# Altium integrated library Integrated_Library1b.IntLib: 1312 symbols (part 14 of 58)
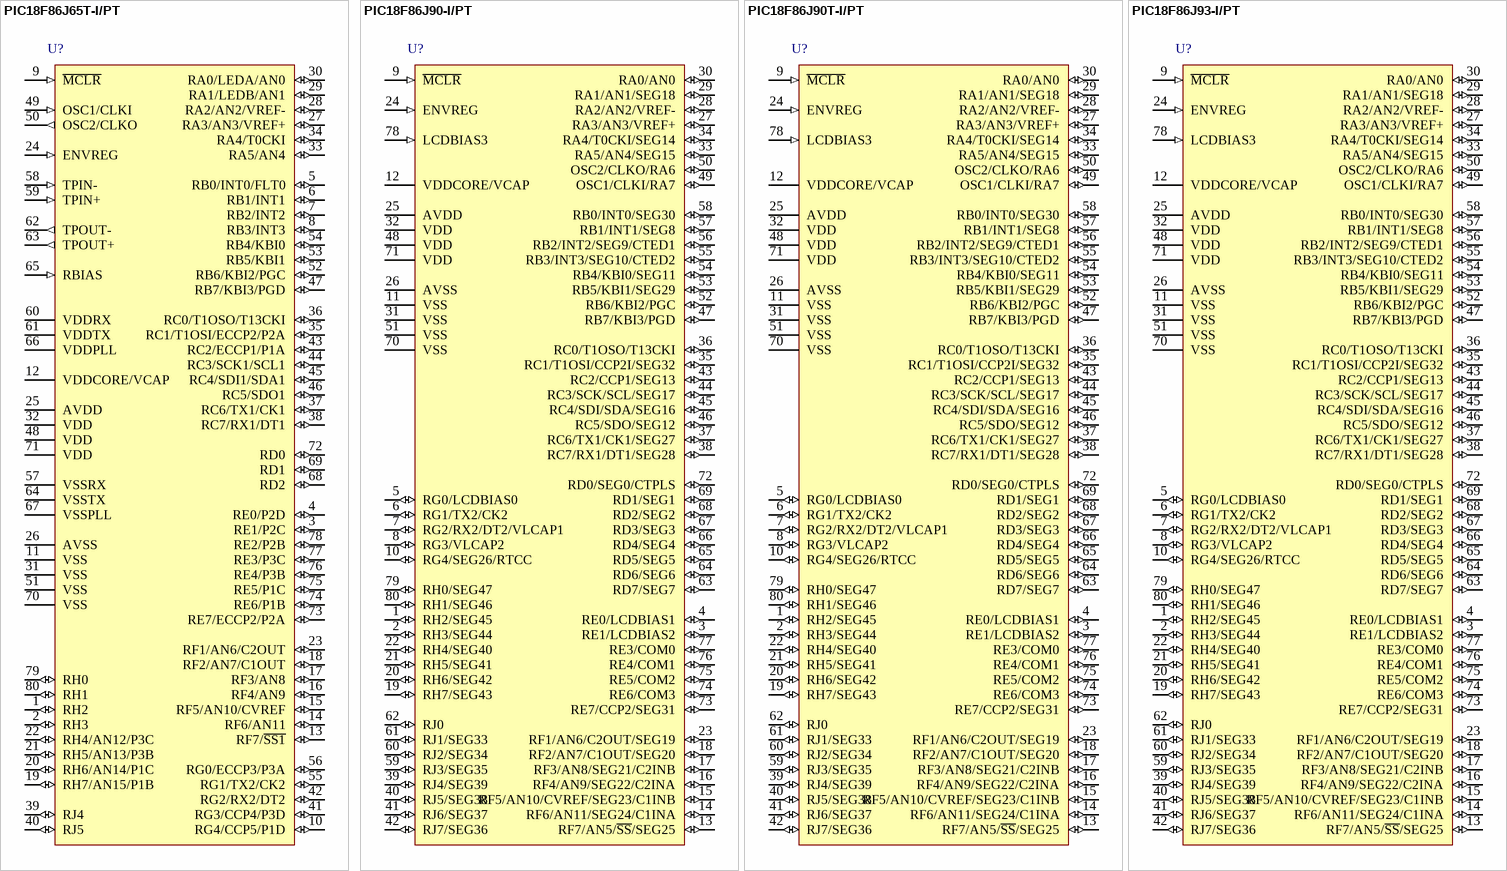
[diagram p162: symbols PIC18F86J65T-I/PT to PIC18F86J93-I/PT]

## PIC18F86J90-I/PT
designator U?
High Performance Microcontroller with LCD Driver and nanoWatt Technology, 80-pin TQFP, Industrial Temperature; FirstPublished: 2-Dec-2009; DatasheetVersion: revC, Feb-2009; PackageVersion: revBB, Aug-2009; PackageReference: TQFP-PT80; Publisher: Altium Limited; PackageDescription: 80-Lead Thin Plastic Quad Flat Pack (PT) - 12x12x1mm Body, 2.00mm [TQFP]; Supplier 1: Digi-Key; Supplier Part Number 1: PIC18F86J90-I/PT-ND; Supplier 2: Farnell; Supplier Part Number 2: 1706288; Supplier 3: Newark; Supplier Part Number 3: 07P9685; Code_JEDEC: MS-026; ComponentLink1Description: Datasheet; ComponentLink1URL: http://ww1.microchip.com/downloads/en/DeviceDoc/39933C.pdf; ComponentLink2Description: Packaging Specification; ComponentLink2URL: http://www.microchip.com/stellent/groups/techpub_sg/documents/packagingspec/en012702.pdf; ComponentLink3Description: Microchip.com Home; ComponentLink3URL: http://www.microchip.com/
footprint TQFP-PT80_N (Thin QFP, 80-Leads, Body 12x12mm, Pitch 0.5mm, IPC Medium Density)
footprint TQFP-PT80_L (Thin QFP, 80-Leads, Body 12x12mm, Pitch 0.5mm, IPC High Density)
footprint TQFP-PT80_M (Thin QFP, 80-Leads, Body 12x12mm, Pitch 0.5mm, IPC Low Density)
pins: 1 RH2/SEG45 (io), 2 RH3/SEG44 (io), 3 RE1/LCDBIAS2 (io), 4 RE0/LCDBIAS1 (io), 5 RG0/LCDBIAS0 (io), 6 RG1/TX2/CK2 (io), 7 RG2/RX2/DT2/VLCAP1 (io), 8 RG3/VLCAP2 (io), 9 ~{MCLR} (in), 10 RG4/SEG26/RTCC (io), 11 VSS (power), 12 VDDCORE/VCAP (power), 13 RF7/AN5/~{SS}/SEG25 (io), 14 RF6/AN11/SEG24/C1INA (io), 15 RF5/AN10/CVREF/SEG23/C1INB (io), 16 RF4/AN9/SEG22/C2INA (io), 17 RF3/AN8/SEG21/C2INB (io), 18 RF2/AN7/C1OUT/SEG20 (io), 19 RH7/SEG43 (io), 20 RH6/SEG42 (io), 21 RH5/SEG41 (io), 22 RH4/SEG40 (io), 23 RF1/AN6/C2OUT/SEG19 (io), 24 ENVREG (in), 25 AVDD (power), 26 AVSS (power), 27 RA3/AN3/VREF+ (io), 28 RA2/AN2/VREF- (io), 29 RA1/AN1/SEG18 (io), 30 RA0/AN0 (io), 31 VSS (power), 32 VDD (power), 33 RA5/AN4/SEG15 (io), 34 RA4/T0CKI/SEG14 (io), 35 RC1/T1OSI/CCP2I/SEG32 (io), 36 RC0/T1OSO/T13CKI (io), 37 RC6/TX1/CK1/SEG27 (io), 38 RC7/RX1/DT1/SEG28 (io), 39 RJ4/SEG39 (io), 40 RJ5/SEG38 (io), 41 RJ6/SEG37 (io), 42 RJ7/SEG36 (io), 43 RC2/CCP1/SEG13 (io), 44 RC3/SCK/SCL/SEG17 (io), 45 RC4/SDI/SDA/SEG16 (io), 46 RC5/SDO/SEG12 (io), 47 RB7/KBI3/PGD (io), 48 VDD (power), 49 OSC1/CLKI/RA7 (io), 50 OSC2/CLKO/RA6 (io), 51 VSS (power), 52 RB6/KBI2/PGC (io), 53 RB5/KBI1/SEG29 (io), 54 RB4/KBI0/SEG11 (io), 55 RB3/INT3/SEG10/CTED2 (io), 56 RB2/INT2/SEG9/CTED1 (io), 57 RB1/INT1/SEG8 (io), 58 RB0/INT0/SEG30 (io), 59 RJ3/SEG35 (io), 60 RJ2/SEG34 (io), 61 RJ1/SEG33 (io), 62 RJ0 (io), 63 RD7/SEG7 (io), 64 RD6/SEG6 (io), 65 RD5/SEG5 (io), 66 RD4/SEG4 (io), 67 RD3/SEG3 (io), 68 RD2/SEG2 (io), 69 RD1/SEG1 (io), 70 VSS (power), 71 VDD (power), 72 RD0/SEG0/CTPLS (io), 73 RE7/CCP2/SEG31 (io), 74 RE6/COM3 (io), 75 RE5/COM2 (io), 76 RE4/COM1 (io), 77 RE3/COM0 (io), 78 LCDBIAS3 (in), 79 RH0/SEG47 (io), 80 RH1/SEG46 (io)

## PIC18F86J90T-I/PT
designator U?
High Performance Microcontroller with LCD Driver and nanoWatt Technology, 80-pin TQFP, Industrial Temperature, Tape and Reel; FirstPublished: 2-Dec-2009; DatasheetVersion: revC, Feb-2009; PackageVersion: revBB, Aug-2009; PackageReference: TQFP-PT80; Publisher: Altium Limited; PackageDescription: 80-Lead Thin Plastic Quad Flat Pack (PT) - 12x12x1mm Body, 2.00mm [TQFP]; Supplier 1: Digi-Key; Supplier Part Number 1: PIC18F86J90T-I/PT-ND; Supplier 2: Newark; Supplier Part Number 2: 07P9686; Code_JEDEC: MS-026; ComponentLink1Description: Datasheet; ComponentLink1URL: http://ww1.microchip.com/downloads/en/DeviceDoc/39933C.pdf; ComponentLink2Description: Packaging Specification; ComponentLink2URL: http://www.microchip.com/stellent/groups/techpub_sg/documents/packagingspec/en012702.pdf; ComponentLink3Description: Microchip.com Home; ComponentLink3URL: http://www.microchip.com/
footprint TQFP-PT80_N (Thin QFP, 80-Leads, Body 12x12mm, Pitch 0.5mm, IPC Medium Density)
footprint TQFP-PT80_L (Thin QFP, 80-Leads, Body 12x12mm, Pitch 0.5mm, IPC High Density)
footprint TQFP-PT80_M (Thin QFP, 80-Leads, Body 12x12mm, Pitch 0.5mm, IPC Low Density)
pins: 1 RH2/SEG45 (io), 2 RH3/SEG44 (io), 3 RE1/LCDBIAS2 (io), 4 RE0/LCDBIAS1 (io), 5 RG0/LCDBIAS0 (io), 6 RG1/TX2/CK2 (io), 7 RG2/RX2/DT2/VLCAP1 (io), 8 RG3/VLCAP2 (io), 9 ~{MCLR} (in), 10 RG4/SEG26/RTCC (io), 11 VSS (power), 12 VDDCORE/VCAP (power), 13 RF7/AN5/~{SS}/SEG25 (io), 14 RF6/AN11/SEG24/C1INA (io), 15 RF5/AN10/CVREF/SEG23/C1INB (io), 16 RF4/AN9/SEG22/C2INA (io), 17 RF3/AN8/SEG21/C2INB (io), 18 RF2/AN7/C1OUT/SEG20 (io), 19 RH7/SEG43 (io), 20 RH6/SEG42 (io), 21 RH5/SEG41 (io), 22 RH4/SEG40 (io), 23 RF1/AN6/C2OUT/SEG19 (io), 24 ENVREG (in), 25 AVDD (power), 26 AVSS (power), 27 RA3/AN3/VREF+ (io), 28 RA2/AN2/VREF- (io), 29 RA1/AN1/SEG18 (io), 30 RA0/AN0 (io), 31 VSS (power), 32 VDD (power), 33 RA5/AN4/SEG15 (io), 34 RA4/T0CKI/SEG14 (io), 35 RC1/T1OSI/CCP2I/SEG32 (io), 36 RC0/T1OSO/T13CKI (io), 37 RC6/TX1/CK1/SEG27 (io), 38 RC7/RX1/DT1/SEG28 (io), 39 RJ4/SEG39 (io), 40 RJ5/SEG38 (io), 41 RJ6/SEG37 (io), 42 RJ7/SEG36 (io), 43 RC2/CCP1/SEG13 (io), 44 RC3/SCK/SCL/SEG17 (io), 45 RC4/SDI/SDA/SEG16 (io), 46 RC5/SDO/SEG12 (io), 47 RB7/KBI3/PGD (io), 48 VDD (power), 49 OSC1/CLKI/RA7 (io), 50 OSC2/CLKO/RA6 (io), 51 VSS (power), 52 RB6/KBI2/PGC (io), 53 RB5/KBI1/SEG29 (io), 54 RB4/KBI0/SEG11 (io), 55 RB3/INT3/SEG10/CTED2 (io), 56 RB2/INT2/SEG9/CTED1 (io), 57 RB1/INT1/SEG8 (io), 58 RB0/INT0/SEG30 (io), 59 RJ3/SEG35 (io), 60 RJ2/SEG34 (io), 61 RJ1/SEG33 (io), 62 RJ0 (io), 63 RD7/SEG7 (io), 64 RD6/SEG6 (io), 65 RD5/SEG5 (io), 66 RD4/SEG4 (io), 67 RD3/SEG3 (io), 68 RD2/SEG2 (io), 69 RD1/SEG1 (io), 70 VSS (power), 71 VDD (power), 72 RD0/SEG0/CTPLS (io), 73 RE7/CCP2/SEG31 (io), 74 RE6/COM3 (io), 75 RE5/COM2 (io), 76 RE4/COM1 (io), 77 RE3/COM0 (io), 78 LCDBIAS3 (in), 79 RH0/SEG47 (io), 80 RH1/SEG46 (io)

## PIC18F86J93-I/PT
designator U?
High Performance Microcontroller with LCD Driver, 12-Bit A/D and nanoWatt Technology, 80-pin TQFP, Industrial Temperature; FirstPublished: 2-Dec-2009; DatasheetVersion: revA, Jun-2009; PackageVersion: revBB, Aug-2009; PackageReference: TQFP-PT80; Publisher: Altium Limited; PackageDescription: 80-Lead Thin Plastic Quad Flat Pack (PT) - 12x12x1mm Body, 2.00mm [TQFP]; Supplier 1: Digi-Key; Supplier Part Number 1: PIC18F86J93-I/PT-ND; Supplier 2: Farnell; Supplier Part Number 2: 1740230; Supplier 3: Newark; Supplier Part Number 3: 14R8990; Code_JEDEC: MS-026; ComponentLink1Description: Datasheet; ComponentLink1URL: http://ww1.microchip.com/downloads/en/DeviceDoc/39948a.pdf; ComponentLink2Description: Packaging Specification; ComponentLink2URL: http://www.microchip.com/stellent/groups/techpub_sg/documents/packagingspec/en012702.pdf; ComponentLink3Description: Microchip.com Home; ComponentLink3URL: http://www.microchip.com/
footprint TQFP-PT80_N (Thin QFP, 80-Leads, Body 12x12mm, Pitch 0.5mm, IPC Medium Density)
footprint TQFP-PT80_L (Thin QFP, 80-Leads, Body 12x12mm, Pitch 0.5mm, IPC High Density)
footprint TQFP-PT80_M (Thin QFP, 80-Leads, Body 12x12mm, Pitch 0.5mm, IPC Low Density)
pins: 1 RH2/SEG45 (io), 2 RH3/SEG44 (io), 3 RE1/LCDBIAS2 (io), 4 RE0/LCDBIAS1 (io), 5 RG0/LCDBIAS0 (io), 6 RG1/TX2/CK2 (io), 7 RG2/RX2/DT2/VLCAP1 (io), 8 RG3/VLCAP2 (io), 9 ~{MCLR} (in), 10 RG4/SEG26/RTCC (io), 11 VSS (power), 12 VDDCORE/VCAP (power), 13 RF7/AN5/~{SS}/SEG25 (io), 14 RF6/AN11/SEG24/C1INA (io), 15 RF5/AN10/CVREF/SEG23/C1INB (io), 16 RF4/AN9/SEG22/C2INA (io), 17 RF3/AN8/SEG21/C2INB (io), 18 RF2/AN7/C1OUT/SEG20 (io), 19 RH7/SEG43 (io), 20 RH6/SEG42 (io), 21 RH5/SEG41 (io), 22 RH4/SEG40 (io), 23 RF1/AN6/C2OUT/SEG19 (io), 24 ENVREG (in), 25 AVDD (power), 26 AVSS (power), 27 RA3/AN3/VREF+ (io), 28 RA2/AN2/VREF- (io), 29 RA1/AN1/SEG18 (io), 30 RA0/AN0 (io), 31 VSS (power), 32 VDD (power), 33 RA5/AN4/SEG15 (io), 34 RA4/T0CKI/SEG14 (io), 35 RC1/T1OSI/CCP2I/SEG32 (io), 36 RC0/T1OSO/T13CKI (io), 37 RC6/TX1/CK1/SEG27 (io), 38 RC7/RX1/DT1/SEG28 (io), 39 RJ4/SEG39 (io), 40 RJ5/SEG38 (io), 41 RJ6/SEG37 (io), 42 RJ7/SEG36 (io), 43 RC2/CCP1/SEG13 (io), 44 RC3/SCK/SCL/SEG17 (io), 45 RC4/SDI/SDA/SEG16 (io), 46 RC5/SDO/SEG12 (io), 47 RB7/KBI3/PGD (io), 48 VDD (power), 49 OSC1/CLKI/RA7 (io), 50 OSC2/CLKO/RA6 (io), 51 VSS (power), 52 RB6/KBI2/PGC (io), 53 RB5/KBI1/SEG29 (io), 54 RB4/KBI0/SEG11 (io), 55 RB3/INT3/SEG10/CTED2 (io), 56 RB2/INT2/SEG9/CTED1 (io), 57 RB1/INT1/SEG8 (io), 58 RB0/INT0/SEG30 (io), 59 RJ3/SEG35 (io), 60 RJ2/SEG34 (io), 61 RJ1/SEG33 (io), 62 RJ0 (io), 63 RD7/SEG7 (io), 64 RD6/SEG6 (io), 65 RD5/SEG5 (io), 66 RD4/SEG4 (io), 67 RD3/SEG3 (io), 68 RD2/SEG2 (io), 69 RD1/SEG1 (io), 70 VSS (power), 71 VDD (power), 72 RD0/SEG0/CTPLS (io), 73 RE7/CCP2/SEG31 (io), 74 RE6/COM3 (io), 75 RE5/COM2 (io), 76 RE4/COM1 (io), 77 RE3/COM0 (io), 78 LCDBIAS3 (in), 79 RH0/SEG47 (io), 80 RH1/SEG46 (io)

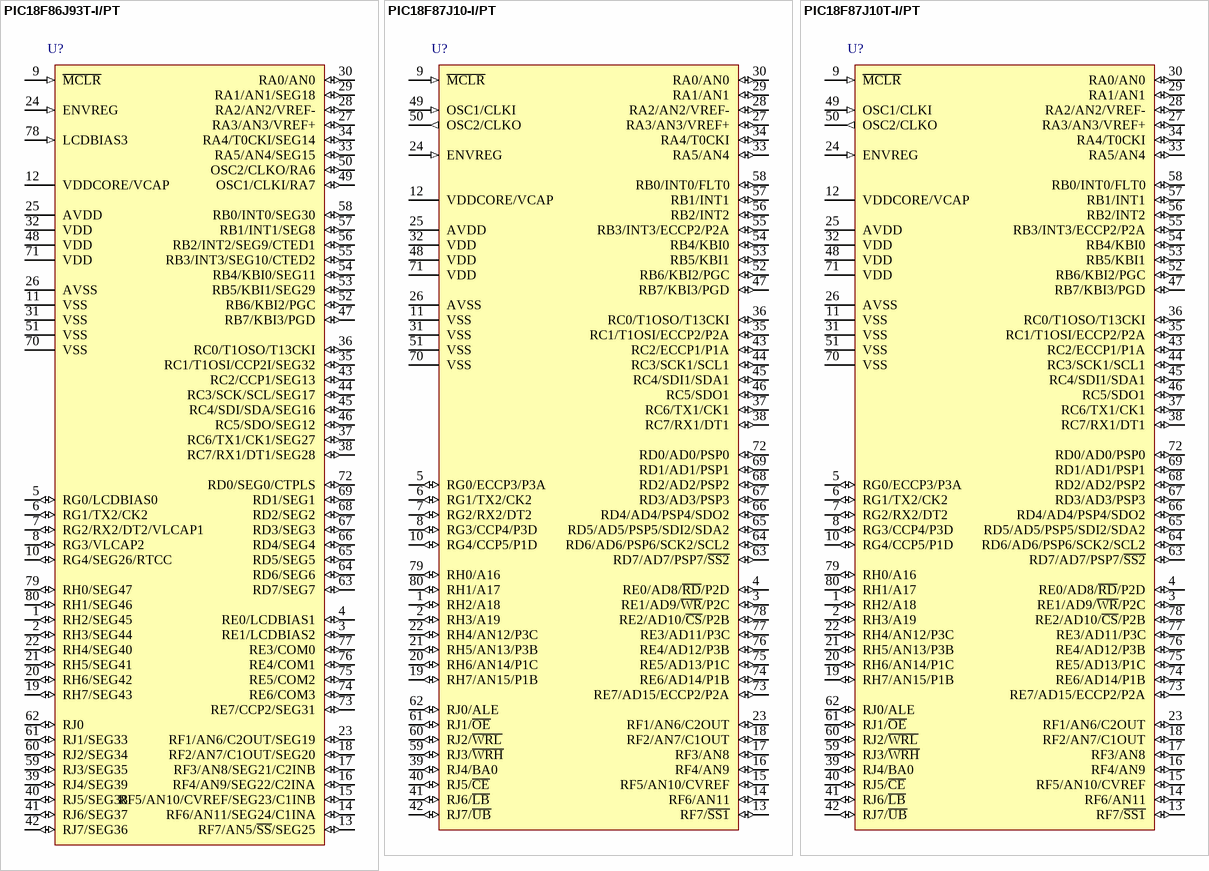
[diagram p38: symbols PIC18F86J93T-I/PT to PIC18F87J10T-I/PT]

## PIC18F86J93T-I/PT
designator U?
High Performance Microcontroller with LCD Driver, 12-Bit A/D and nanoWatt Technology, 80-pin TQFP, Industrial Temperature, Tape and Reel; FirstPublished: 2-Dec-2009; DatasheetVersion: revA, Jun-2009; PackageVersion: revBB, Aug-2009; PackageReference: TQFP-PT80; Publisher: Altium Limited; PackageDescription: 80-Lead Thin Plastic Quad Flat Pack (PT) - 12x12x1mm Body, 2.00mm [TQFP]; Supplier 1: Digi-Key; Supplier Part Number 1: PIC18F86J93T-I/PT-ND; Supplier 2: Newark; Supplier Part Number 2: 14R8991; Code_JEDEC: MS-026; ComponentLink1Description: Datasheet; ComponentLink1URL: http://ww1.microchip.com/downloads/en/DeviceDoc/39948a.pdf; ComponentLink2Description: Packaging Specification; ComponentLink2URL: http://www.microchip.com/stellent/groups/techpub_sg/documents/packagingspec/en012702.pdf; ComponentLink3Description: Microchip.com Home; ComponentLink3URL: http://www.microchip.com/
footprint TQFP-PT80_N (Thin QFP, 80-Leads, Body 12x12mm, Pitch 0.5mm, IPC Medium Density)
footprint TQFP-PT80_L (Thin QFP, 80-Leads, Body 12x12mm, Pitch 0.5mm, IPC High Density)
footprint TQFP-PT80_M (Thin QFP, 80-Leads, Body 12x12mm, Pitch 0.5mm, IPC Low Density)
pins: 1 RH2/SEG45 (io), 2 RH3/SEG44 (io), 3 RE1/LCDBIAS2 (io), 4 RE0/LCDBIAS1 (io), 5 RG0/LCDBIAS0 (io), 6 RG1/TX2/CK2 (io), 7 RG2/RX2/DT2/VLCAP1 (io), 8 RG3/VLCAP2 (io), 9 ~{MCLR} (in), 10 RG4/SEG26/RTCC (io), 11 VSS (power), 12 VDDCORE/VCAP (power), 13 RF7/AN5/~{SS}/SEG25 (io), 14 RF6/AN11/SEG24/C1INA (io), 15 RF5/AN10/CVREF/SEG23/C1INB (io), 16 RF4/AN9/SEG22/C2INA (io), 17 RF3/AN8/SEG21/C2INB (io), 18 RF2/AN7/C1OUT/SEG20 (io), 19 RH7/SEG43 (io), 20 RH6/SEG42 (io), 21 RH5/SEG41 (io), 22 RH4/SEG40 (io), 23 RF1/AN6/C2OUT/SEG19 (io), 24 ENVREG (in), 25 AVDD (power), 26 AVSS (power), 27 RA3/AN3/VREF+ (io), 28 RA2/AN2/VREF- (io), 29 RA1/AN1/SEG18 (io), 30 RA0/AN0 (io), 31 VSS (power), 32 VDD (power), 33 RA5/AN4/SEG15 (io), 34 RA4/T0CKI/SEG14 (io), 35 RC1/T1OSI/CCP2I/SEG32 (io), 36 RC0/T1OSO/T13CKI (io), 37 RC6/TX1/CK1/SEG27 (io), 38 RC7/RX1/DT1/SEG28 (io), 39 RJ4/SEG39 (io), 40 RJ5/SEG38 (io), 41 RJ6/SEG37 (io), 42 RJ7/SEG36 (io), 43 RC2/CCP1/SEG13 (io), 44 RC3/SCK/SCL/SEG17 (io), 45 RC4/SDI/SDA/SEG16 (io), 46 RC5/SDO/SEG12 (io), 47 RB7/KBI3/PGD (io), 48 VDD (power), 49 OSC1/CLKI/RA7 (io), 50 OSC2/CLKO/RA6 (io), 51 VSS (power), 52 RB6/KBI2/PGC (io), 53 RB5/KBI1/SEG29 (io), 54 RB4/KBI0/SEG11 (io), 55 RB3/INT3/SEG10/CTED2 (io), 56 RB2/INT2/SEG9/CTED1 (io), 57 RB1/INT1/SEG8 (io), 58 RB0/INT0/SEG30 (io), 59 RJ3/SEG35 (io), 60 RJ2/SEG34 (io), 61 RJ1/SEG33 (io), 62 RJ0 (io), 63 RD7/SEG7 (io), 64 RD6/SEG6 (io), 65 RD5/SEG5 (io), 66 RD4/SEG4 (io), 67 RD3/SEG3 (io), 68 RD2/SEG2 (io), 69 RD1/SEG1 (io), 70 VSS (power), 71 VDD (power), 72 RD0/SEG0/CTPLS (io), 73 RE7/CCP2/SEG31 (io), 74 RE6/COM3 (io), 75 RE5/COM2 (io), 76 RE4/COM1 (io), 77 RE3/COM0 (io), 78 LCDBIAS3 (in), 79 RH0/SEG47 (io), 80 RH1/SEG46 (io)

## PIC18F87J10-I/PT
designator U?
High Performance, 1-Mbit Flash Microcontroller with nanoWatt Technology, 128K Flash, 80-Pin TQFP, Industrial Temperature Range; FirstPublished: 29-Jan-2009; LatestRevisionDate: 02-Dec-2009; LatestRevisionNote: Updated to datasheet revision F, Sep-2009; DatasheetVersion: revF, Sep-2009; PackageVersion: revBB, Aug-2009; PackageReference: TQFP-PT80; Publisher: Altium Limited; PackageDescription: 80-Lead Thin Plastic Quad Flat Pack (PT) - 12x12x1mm Body, 2.00mm [TQFP]; Supplier 1: Digi-Key; Supplier Part Number 1: PIC18F87J10-I/PT-ND; Supplier 2: Farnell; Supplier Part Number 2: 1332290; Supplier 3: Newark; Supplier Part Number 3: 71J7289; Code_JEDEC: MS-026; ComponentLink1Description: Datasheet; ComponentLink1URL: http://ww1.microchip.com/downloads/en/DeviceDoc/39663f.pdf; ComponentLink2Description: Packaging Specification; ComponentLink2URL: http://www.microchip.com/stellent/groups/techpub_sg/documents/packagingspec/en012702.pdf; ComponentLink3Description: Microchip.com Home; ComponentLink3URL: http://www.microchip.com/
footprint TQFP-PT80_N (Thin QFP, 80-Leads, Body 12x12mm, Pitch 0.5mm, IPC Medium Density)
footprint TQFP-PT80_L (Thin QFP, 80-Leads, Body 12x12mm, Pitch 0.5mm, IPC High Density)
footprint TQFP-PT80_M (Thin QFP, 80-Leads, Body 12x12mm, Pitch 0.5mm, IPC Low Density)
pins: 1 RH2/A18 (io), 2 RH3/A19 (io), 3 RE1/AD9/~{WR}/P2C (io), 4 RE0/AD8/~{RD}/P2D (io), 5 RG0/ECCP3/P3A (io), 6 RG1/TX2/CK2 (io), 7 RG2/RX2/DT2 (io), 8 RG3/CCP4/P3D (io), 9 ~{MCLR} (in), 10 RG4/CCP5/P1D (io), 11 VSS (power), 12 VDDCORE/VCAP (power), 13 RF7/~{SS1} (io), 14 RF6/AN11 (io), 15 RF5/AN10/CVREF (io), 16 RF4/AN9 (io), 17 RF3/AN8 (io), 18 RF2/AN7/C1OUT (io), 19 RH7/AN15/P1B (io), 20 RH6/AN14/P1C (io), 21 RH5/AN13/P3B (io), 22 RH4/AN12/P3C (io), 23 RF1/AN6/C2OUT (io), 24 ENVREG (in), 25 AVDD (power), 26 AVSS (power), 27 RA3/AN3/VREF+ (io), 28 RA2/AN2/VREF- (io), 29 RA1/AN1 (io), 30 RA0/AN0 (io), 31 VSS (power), 32 VDD (power), 33 RA5/AN4 (io), 34 RA4/T0CKI (io), 35 RC1/T1OSI/ECCP2/P2A (io), 36 RC0/T1OSO/T13CKI (io), 37 RC6/TX1/CK1 (io), 38 RC7/RX1/DT1 (io), 39 RJ4/BA0 (io), 40 RJ5/~{CE} (io), 41 RJ6/~{LB} (io), 42 RJ7/~{UB} (io), 43 RC2/ECCP1/P1A (io), 44 RC3/SCK1/SCL1 (io), 45 RC4/SDI1/SDA1 (io), 46 RC5/SDO1 (io), 47 RB7/KBI3/PGD (io), 48 VDD (power), 49 OSC1/CLKI (in), 50 OSC2/CLKO (out), 51 VSS (power), 52 RB6/KBI2/PGC (io), 53 RB5/KBI1 (io), 54 RB4/KBI0 (io), 55 RB3/INT3/ECCP2/P2A (io), 56 RB2/INT2 (io), 57 RB1/INT1 (io), 58 RB0/INT0/FLT0 (io), 59 RJ3/~{WRH} (io), 60 RJ2/~{WRL} (io), 61 RJ1/~{OE} (io), 62 RJ0/ALE (io), 63 RD7/AD7/PSP7/~{SS2} (io), 64 RD6/AD6/PSP6/SCK2/SCL2 (io), 65 RD5/AD5/PSP5/SDI2/SDA2 (io), 66 RD4/AD4/PSP4/SDO2 (io), 67 RD3/AD3/PSP3 (io), 68 RD2/AD2/PSP2 (io), 69 RD1/AD1/PSP1 (io), 70 VSS (power), 71 VDD (power), 72 RD0/AD0/PSP0 (io), 73 RE7/AD15/ECCP2/P2A (io), 74 RE6/AD14/P1B (io), 75 RE5/AD13/P1C (io), 76 RE4/AD12/P3B (io), 77 RE3/AD11/P3C (io), 78 RE2/AD10/~{CS}/P2B (io), 79 RH0/A16 (io), 80 RH1/A17 (io)

## PIC18F87J10T-I/PT
designator U?
High Performance, 1-Mbit Flash Microcontroller with nanoWatt Technology, 128K Flash, 80-Pin TQFP, Industrial Temperature Range, Tape and Reel; FirstPublished: 29-Jan-2009; LatestRevisionDate: 02-Dec-2009; LatestRevisionNote: Updated to datasheet revision F, Sep-2009; DatasheetVersion: revF, Sep-2009; PackageVersion: revBB, Aug-2009; PackageReference: TQFP-PT80; Publisher: Altium Limited; PackageDescription: 80-Lead Thin Plastic Quad Flat Pack (PT) - 12x12x1mm Body, 2.00mm [TQFP]; Supplier 1: Digi-Key; Supplier Part Number 1: PIC18F87J10T-I/PTTR-ND; Supplier 2: Digi-Key; Supplier Part Number 2: PIC18F87J10T-I/PTCT-ND; Supplier 3: Newark; Supplier Part Number 3: 71J7290; Code_JEDEC: MS-026; ComponentLink1Description: Datasheet; ComponentLink1URL: http://ww1.microchip.com/downloads/en/DeviceDoc/39663f.pdf; ComponentLink2Description: Packaging Specification; ComponentLink2URL: http://www.microchip.com/stellent/groups/techpub_sg/documents/packagingspec/en012702.pdf; ComponentLink3Description: Microchip.com Home; ComponentLink3URL: http://www.microchip.com/
footprint TQFP-PT80_N (Thin QFP, 80-Leads, Body 12x12mm, Pitch 0.5mm, IPC Medium Density)
footprint TQFP-PT80_L (Thin QFP, 80-Leads, Body 12x12mm, Pitch 0.5mm, IPC High Density)
footprint TQFP-PT80_M (Thin QFP, 80-Leads, Body 12x12mm, Pitch 0.5mm, IPC Low Density)
pins: 1 RH2/A18 (io), 2 RH3/A19 (io), 3 RE1/AD9/~{WR}/P2C (io), 4 RE0/AD8/~{RD}/P2D (io), 5 RG0/ECCP3/P3A (io), 6 RG1/TX2/CK2 (io), 7 RG2/RX2/DT2 (io), 8 RG3/CCP4/P3D (io), 9 ~{MCLR} (in), 10 RG4/CCP5/P1D (io), 11 VSS (power), 12 VDDCORE/VCAP (power), 13 RF7/~{SS1} (io), 14 RF6/AN11 (io), 15 RF5/AN10/CVREF (io), 16 RF4/AN9 (io), 17 RF3/AN8 (io), 18 RF2/AN7/C1OUT (io), 19 RH7/AN15/P1B (io), 20 RH6/AN14/P1C (io), 21 RH5/AN13/P3B (io), 22 RH4/AN12/P3C (io), 23 RF1/AN6/C2OUT (io), 24 ENVREG (in), 25 AVDD (power), 26 AVSS (power), 27 RA3/AN3/VREF+ (io), 28 RA2/AN2/VREF- (io), 29 RA1/AN1 (io), 30 RA0/AN0 (io), 31 VSS (power), 32 VDD (power), 33 RA5/AN4 (io), 34 RA4/T0CKI (io), 35 RC1/T1OSI/ECCP2/P2A (io), 36 RC0/T1OSO/T13CKI (io), 37 RC6/TX1/CK1 (io), 38 RC7/RX1/DT1 (io), 39 RJ4/BA0 (io), 40 RJ5/~{CE} (io), 41 RJ6/~{LB} (io), 42 RJ7/~{UB} (io), 43 RC2/ECCP1/P1A (io), 44 RC3/SCK1/SCL1 (io), 45 RC4/SDI1/SDA1 (io), 46 RC5/SDO1 (io), 47 RB7/KBI3/PGD (io), 48 VDD (power), 49 OSC1/CLKI (in), 50 OSC2/CLKO (out), 51 VSS (power), 52 RB6/KBI2/PGC (io), 53 RB5/KBI1 (io), 54 RB4/KBI0 (io), 55 RB3/INT3/ECCP2/P2A (io), 56 RB2/INT2 (io), 57 RB1/INT1 (io), 58 RB0/INT0/FLT0 (io), 59 RJ3/~{WRH} (io), 60 RJ2/~{WRL} (io), 61 RJ1/~{OE} (io), 62 RJ0/ALE (io), 63 RD7/AD7/PSP7/~{SS2} (io), 64 RD6/AD6/PSP6/SCK2/SCL2 (io), 65 RD5/AD5/PSP5/SDI2/SDA2 (io), 66 RD4/AD4/PSP4/SDO2 (io), 67 RD3/AD3/PSP3 (io), 68 RD2/AD2/PSP2 (io), 69 RD1/AD1/PSP1 (io), 70 VSS (power), 71 VDD (power), 72 RD0/AD0/PSP0 (io), 73 RE7/AD15/ECCP2/P2A (io), 74 RE6/AD14/P1B (io), 75 RE5/AD13/P1C (io), 76 RE4/AD12/P3B (io), 77 RE3/AD11/P3C (io), 78 RE2/AD10/~{CS}/P2B (io), 79 RH0/A16 (io), 80 RH1/A17 (io)

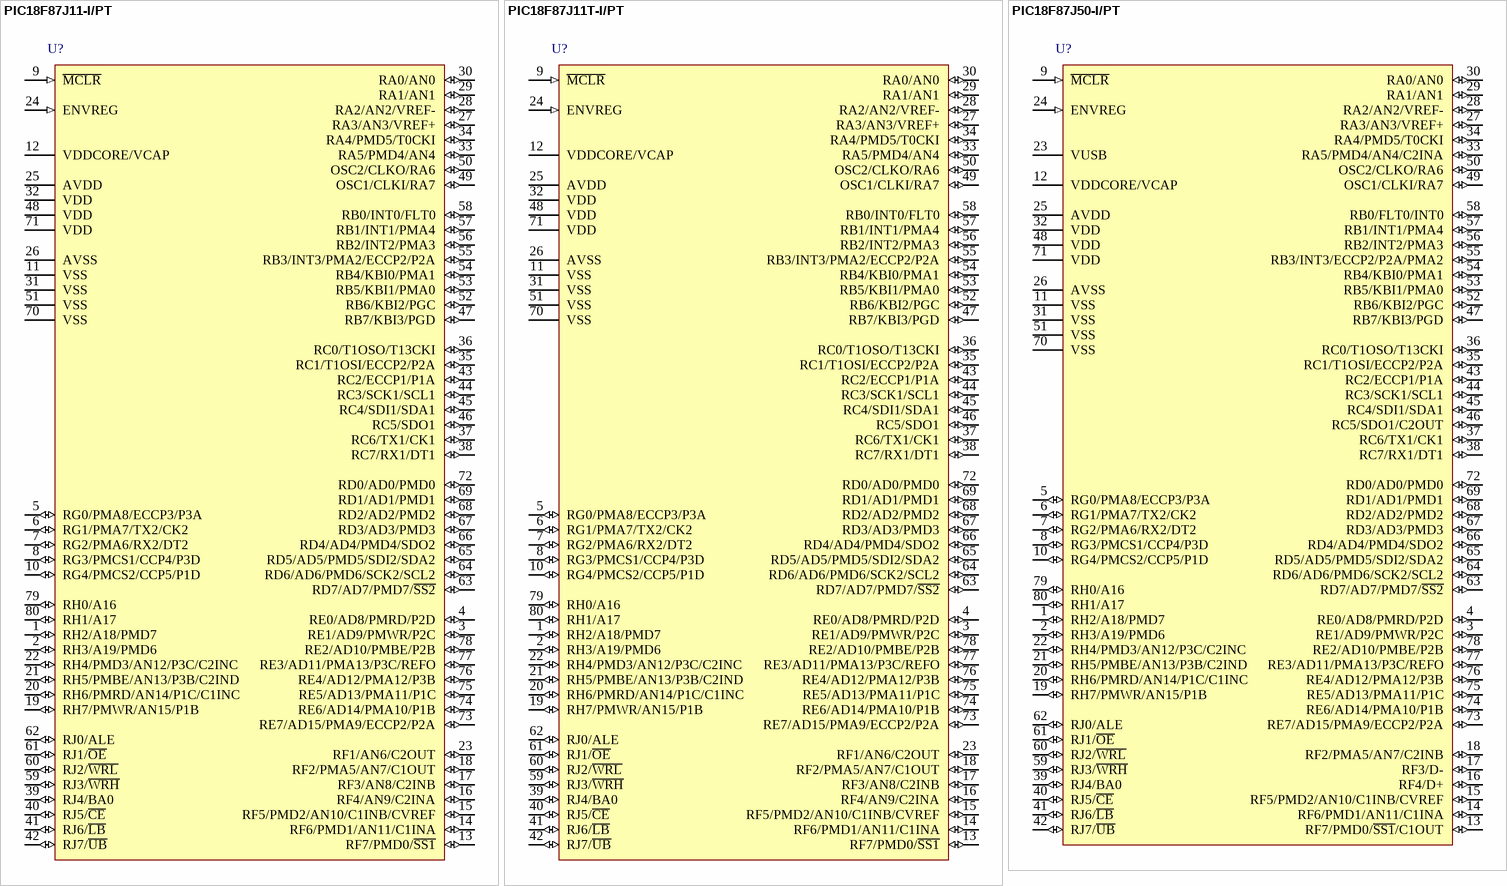
[diagram p39: symbols PIC18F87J11-I/PT to PIC18F87J50-I/PT]

## PIC18F87J11-I/PT
designator U?
High Performance, 1-Mbit Flash Microcontroller with nanoWatt Technology, 128K Flash, 80-Pin TQFP, Industrial Temperature Range; FirstPublished: 29-Jan-2009; LatestRevisionDate: 02-Dec-2009; LatestRevisionNote: Updated to datasheet revision D, Oct-2009; DatasheetVersion: revD, Oct-2009; PackageVersion: revBB, Aug-2009; PackageReference: TQFP-PT80; Publisher: Altium Limited; PackageDescription: 80-Lead Thin Plastic Quad Flat Pack (PT) - 12x12x1mm Body, 2.00mm [TQFP]; Supplier 1: Digi-Key; Supplier Part Number 1: PIC18F87J11-I/PT-ND; Supplier 2: Farnell; Supplier Part Number 2: 1567758; Supplier 3: Newark; Supplier Part Number 3: 17M0984; Code_JEDEC: MS-026; ComponentLink1Description: Datasheet; ComponentLink1URL: http://ww1.microchip.com/downloads/en/DeviceDoc/39778d.pdf; ComponentLink2Description: Packaging Specification; ComponentLink2URL: http://www.microchip.com/stellent/groups/techpub_sg/documents/packagingspec/en012702.pdf; ComponentLink3Description: Microchip.com Home; ComponentLink3URL: http://www.microchip.com/
footprint TQFP-PT80_N (Thin QFP, 80-Leads, Body 12x12mm, Pitch 0.5mm, IPC Medium Density)
footprint TQFP-PT80_L (Thin QFP, 80-Leads, Body 12x12mm, Pitch 0.5mm, IPC High Density)
footprint TQFP-PT80_M (Thin QFP, 80-Leads, Body 12x12mm, Pitch 0.5mm, IPC Low Density)
pins: 1 RH2/A18/PMD7 (io), 2 RH3/A19/PMD6 (io), 3 RE1/AD9/PMWR/P2C (io), 4 RE0/AD8/PMRD/P2D (io), 5 RG0/PMA8/ECCP3/P3A (io), 6 RG1/PMA7/TX2/CK2 (io), 7 RG2/PMA6/RX2/DT2 (io), 8 RG3/PMCS1/CCP4/P3D (io), 9 ~{MCLR} (in), 10 RG4/PMCS2/CCP5/P1D (io), 11 VSS (power), 12 VDDCORE/VCAP (power), 13 RF7/PMD0/~{SS1} (io), 14 RF6/PMD1/AN11/C1INA (io), 15 RF5/PMD2/AN10/C1INB/CVREF (io), 16 RF4/AN9/C2INA (io), 17 RF3/AN8/C2INB (io), 18 RF2/PMA5/AN7/C1OUT (io), 19 RH7/PMWR/AN15/P1B (io), 20 RH6/PMRD/AN14/P1C/C1INC (io), 21 RH5/PMBE/AN13/P3B/C2IND (io), 22 RH4/PMD3/AN12/P3C/C2INC (io), 23 RF1/AN6/C2OUT (io), 24 ENVREG (in), 25 AVDD (power), 26 AVSS (power), 27 RA3/AN3/VREF+ (io), 28 RA2/AN2/VREF- (io), 29 RA1/AN1 (io), 30 RA0/AN0 (io), 31 VSS (power), 32 VDD (power), 33 RA5/PMD4/AN4 (io), 34 RA4/PMD5/T0CKI (io), 35 RC1/T1OSI/ECCP2/P2A (io), 36 RC0/T1OSO/T13CKI (io), 37 RC6/TX1/CK1 (io), 38 RC7/RX1/DT1 (io), 39 RJ4/BA0 (io), 40 RJ5/~{CE} (io), 41 RJ6/~{LB} (io), 42 RJ7/~{UB} (io), 43 RC2/ECCP1/P1A (io), 44 RC3/SCK1/SCL1 (io), 45 RC4/SDI1/SDA1 (io), 46 RC5/SDO1 (io), 47 RB7/KBI3/PGD (io), 48 VDD (power), 49 OSC1/CLKI/RA7 (io), 50 OSC2/CLKO/RA6 (io), 51 VSS (power), 52 RB6/KBI2/PGC (io), 53 RB5/KBI1/PMA0 (io), 54 RB4/KBI0/PMA1 (io), 55 RB3/INT3/PMA2/ECCP2/P2A (io), 56 RB2/INT2/PMA3 (io), 57 RB1/INT1/PMA4 (io), 58 RB0/INT0/FLT0 (io), 59 RJ3/~{WRH} (io), 60 RJ2/~{WRL} (io), 61 RJ1/~{OE} (io), 62 RJ0/ALE (io), 63 RD7/AD7/PMD7/~{SS2} (io), 64 RD6/AD6/PMD6/SCK2/SCL2 (io), 65 RD5/AD5/PMD5/SDI2/SDA2 (io), 66 RD4/AD4/PMD4/SDO2 (io), 67 RD3/AD3/PMD3 (io), 68 RD2/AD2/PMD2 (io), 69 RD1/AD1/PMD1 (io), 70 VSS (power), 71 VDD (power), 72 RD0/AD0/PMD0 (io), 73 RE7/AD15/PMA9/ECCP2/P2A (io), 74 RE6/AD14/PMA10/P1B (io), 75 RE5/AD13/PMA11/P1C (io), 76 RE4/AD12/PMA12/P3B (io), 77 RE3/AD11/PMA13/P3C/REFO (io), 78 RE2/AD10/PMBE/P2B (io), 79 RH0/A16 (io), 80 RH1/A17 (io)

## PIC18F87J11T-I/PT
designator U?
High Performance, 1-Mbit Flash Microcontroller with nanoWatt Technology, 128K Flash, 80-Pin TQFP, Industrial Temperature Range, Tape and Reel; FirstPublished: 29-Jan-2009; LatestRevisionDate: 02-Dec-2009; LatestRevisionNote: Updated to datasheet revision D, Oct-2009; DatasheetVersion: revD, Oct-2009; PackageVersion: revBB, Aug-2009; PackageReference: TQFP-PT80; Publisher: Altium Limited; PackageDescription: 80-Lead Thin Plastic Quad Flat Pack (PT) - 12x12x1mm Body, 2.00mm [TQFP]; Supplier 1: Digi-Key; Supplier Part Number 1: PIC18F87J11T-I/PTTR-ND; Supplier 2: Farnell; Supplier Part Number 2: 1439570; Supplier 3: Newark; Supplier Part Number 3: 17M0985; Code_JEDEC: MS-026; ComponentLink1Description: Datasheet; ComponentLink1URL: http://ww1.microchip.com/downloads/en/DeviceDoc/39778d.pdf; ComponentLink2Description: Packaging Specification; ComponentLink2URL: http://www.microchip.com/stellent/groups/techpub_sg/documents/packagingspec/en012702.pdf; ComponentLink3Description: Microchip.com Home; ComponentLink3URL: http://www.microchip.com/
footprint TQFP-PT80_N (Thin QFP, 80-Leads, Body 12x12mm, Pitch 0.5mm, IPC Medium Density)
footprint TQFP-PT80_L (Thin QFP, 80-Leads, Body 12x12mm, Pitch 0.5mm, IPC High Density)
footprint TQFP-PT80_M (Thin QFP, 80-Leads, Body 12x12mm, Pitch 0.5mm, IPC Low Density)
pins: 1 RH2/A18/PMD7 (io), 2 RH3/A19/PMD6 (io), 3 RE1/AD9/PMWR/P2C (io), 4 RE0/AD8/PMRD/P2D (io), 5 RG0/PMA8/ECCP3/P3A (io), 6 RG1/PMA7/TX2/CK2 (io), 7 RG2/PMA6/RX2/DT2 (io), 8 RG3/PMCS1/CCP4/P3D (io), 9 ~{MCLR} (in), 10 RG4/PMCS2/CCP5/P1D (io), 11 VSS (power), 12 VDDCORE/VCAP (power), 13 RF7/PMD0/~{SS1} (io), 14 RF6/PMD1/AN11/C1INA (io), 15 RF5/PMD2/AN10/C1INB/CVREF (io), 16 RF4/AN9/C2INA (io), 17 RF3/AN8/C2INB (io), 18 RF2/PMA5/AN7/C1OUT (io), 19 RH7/PMWR/AN15/P1B (io), 20 RH6/PMRD/AN14/P1C/C1INC (io), 21 RH5/PMBE/AN13/P3B/C2IND (io), 22 RH4/PMD3/AN12/P3C/C2INC (io), 23 RF1/AN6/C2OUT (io), 24 ENVREG (in), 25 AVDD (power), 26 AVSS (power), 27 RA3/AN3/VREF+ (io), 28 RA2/AN2/VREF- (io), 29 RA1/AN1 (io), 30 RA0/AN0 (io), 31 VSS (power), 32 VDD (power), 33 RA5/PMD4/AN4 (io), 34 RA4/PMD5/T0CKI (io), 35 RC1/T1OSI/ECCP2/P2A (io), 36 RC0/T1OSO/T13CKI (io), 37 RC6/TX1/CK1 (io), 38 RC7/RX1/DT1 (io), 39 RJ4/BA0 (io), 40 RJ5/~{CE} (io), 41 RJ6/~{LB} (io), 42 RJ7/~{UB} (io), 43 RC2/ECCP1/P1A (io), 44 RC3/SCK1/SCL1 (io), 45 RC4/SDI1/SDA1 (io), 46 RC5/SDO1 (io), 47 RB7/KBI3/PGD (io), 48 VDD (power), 49 OSC1/CLKI/RA7 (io), 50 OSC2/CLKO/RA6 (io), 51 VSS (power), 52 RB6/KBI2/PGC (io), 53 RB5/KBI1/PMA0 (io), 54 RB4/KBI0/PMA1 (io), 55 RB3/INT3/PMA2/ECCP2/P2A (io), 56 RB2/INT2/PMA3 (io), 57 RB1/INT1/PMA4 (io), 58 RB0/INT0/FLT0 (io), 59 RJ3/~{WRH} (io), 60 RJ2/~{WRL} (io), 61 RJ1/~{OE} (io), 62 RJ0/ALE (io), 63 RD7/AD7/PMD7/~{SS2} (io), 64 RD6/AD6/PMD6/SCK2/SCL2 (io), 65 RD5/AD5/PMD5/SDI2/SDA2 (io), 66 RD4/AD4/PMD4/SDO2 (io), 67 RD3/AD3/PMD3 (io), 68 RD2/AD2/PMD2 (io), 69 RD1/AD1/PMD1 (io), 70 VSS (power), 71 VDD (power), 72 RD0/AD0/PMD0 (io), 73 RE7/AD15/PMA9/ECCP2/P2A (io), 74 RE6/AD14/PMA10/P1B (io), 75 RE5/AD13/PMA11/P1C (io), 76 RE4/AD12/PMA12/P3B (io), 77 RE3/AD11/PMA13/P3C/REFO (io), 78 RE2/AD10/PMBE/P2B (io), 79 RH0/A16 (io), 80 RH1/A17 (io)

## PIC18F87J50-I/PT
designator U?
High Performance, 1-Mbit Flash USB Microcontroller with nanoWatt Technology, 128K Flash, 80-Pin TQFP, Industrial Temperature Range; FirstPublished: 29-Jan-2009; LatestRevisionDate: 02-Dec-2009; LatestRevisionNote: Updated to datesheet revision C, Oct-2009; DatasheetVersion: revC, Oct-2009; PackageVersion: revBB, Aug-2009; PackageReference: TQFP-PT80; Publisher: Altium Limited; PackageDescription: 80-Lead Thin Plastic Quad Flat Pack (PT) - 12x12x1mm Body, 2.00mm [TQFP]; Supplier 1: Digi-Key; Supplier Part Number 1: PIC18F87J50-I/PT-ND; Supplier 2: Farnell; Supplier Part Number 2: 1439572; Supplier 3: Newark; Supplier Part Number 3: 17M0986; Code_JEDEC: MS-026; ComponentLink1Description: Datasheet; ComponentLink1URL: http://ww1.microchip.com/downloads/en/DeviceDoc/39775c.pdf; ComponentLink2Description: Packaging Specification; ComponentLink2URL: http://www.microchip.com/stellent/groups/techpub_sg/documents/packagingspec/en012702.pdf; ComponentLink3Description: Microchip.com Home; ComponentLink3URL: http://www.microchip.com/
footprint TQFP-PT80_N (Thin QFP, 80-Leads, Body 12x12mm, Pitch 0.5mm, IPC Medium Density)
footprint TQFP-PT80_L (Thin QFP, 80-Leads, Body 12x12mm, Pitch 0.5mm, IPC High Density)
footprint TQFP-PT80_M (Thin QFP, 80-Leads, Body 12x12mm, Pitch 0.5mm, IPC Low Density)
pins: 1 RH2/A18/PMD7 (io), 2 RH3/A19/PMD6 (io), 3 RE1/AD9/PMWR/P2C (io), 4 RE0/AD8/PMRD/P2D (io), 5 RG0/PMA8/ECCP3/P3A (io), 6 RG1/PMA7/TX2/CK2 (io), 7 RG2/PMA6/RX2/DT2 (io), 8 RG3/PMCS1/CCP4/P3D (io), 9 ~{MCLR} (in), 10 RG4/PMCS2/CCP5/P1D (io), 11 VSS (power), 12 VDDCORE/VCAP (power), 13 RF7/PMD0/~{SS1}/C1OUT (io), 14 RF6/PMD1/AN11/C1INA (io), 15 RF5/PMD2/AN10/C1INB/CVREF (io), 16 RF4/D+ (io), 17 RF3/D- (io), 18 RF2/PMA5/AN7/C2INB (io), 19 RH7/PMWR/AN15/P1B (io), 20 RH6/PMRD/AN14/P1C/C1INC (io), 21 RH5/PMBE/AN13/P3B/C2IND (io), 22 RH4/PMD3/AN12/P3C/C2INC (io), 23 VUSB (power), 24 ENVREG (in), 25 AVDD (power), 26 AVSS (power), 27 RA3/AN3/VREF+ (io), 28 RA2/AN2/VREF- (io), 29 RA1/AN1 (io), 30 RA0/AN0 (io), 31 VSS (power), 32 VDD (power), 33 RA5/PMD4/AN4/C2INA (io), 34 RA4/PMD5/T0CKI (io), 35 RC1/T1OSI/ECCP2/P2A (io), 36 RC0/T1OSO/T13CKI (io), 37 RC6/TX1/CK1 (io), 38 RC7/RX1/DT1 (io), 39 RJ4/BA0 (io), 40 RJ5/~{CE} (io), 41 RJ6/~{LB} (io), 42 RJ7/~{UB} (io), 43 RC2/ECCP1/P1A (io), 44 RC3/SCK1/SCL1 (io), 45 RC4/SDI1/SDA1 (io), 46 RC5/SDO1/C2OUT (io), 47 RB7/KBI3/PGD (io), 48 VDD (power), 49 OSC1/CLKI/RA7 (io), 50 OSC2/CLKO/RA6 (io), 51 VSS (power), 52 RB6/KBI2/PGC (io), 53 RB5/KBI1/PMA0 (io), 54 RB4/KBI0/PMA1 (io), 55 RB3/INT3/ECCP2/P2A/PMA2 (io), 56 RB2/INT2/PMA3 (io), 57 RB1/INT1/PMA4 (io), 58 RB0/FLT0/INT0 (io), 59 RJ3/~{WRH} (io), 60 RJ2/~{WRL} (io), 61 RJ1/~{OE} (io), 62 RJ0/ALE (io), 63 RD7/AD7/PMD7/~{SS2} (io), 64 RD6/AD6/PMD6/SCK2/SCL2 (io), 65 RD5/AD5/PMD5/SDI2/SDA2 (io), 66 RD4/AD4/PMD4/SDO2 (io), 67 RD3/AD3/PMD3 (io), 68 RD2/AD2/PMD2 (io), 69 RD1/AD1/PMD1 (io), 70 VSS (power), 71 VDD (power), 72 RD0/AD0/PMD0 (io), 73 RE7/AD15/PMA9/ECCP2/P2A (io), 74 RE6/AD14/PMA10/P1B (io), 75 RE5/AD13/PMA11/P1C (io), 76 RE4/AD12/PMA12/P3B (io), 77 RE3/AD11/PMA13/P3C/REFO (io), 78 RE2/AD10/PMBE/P2B (io), 79 RH0/A16 (io), 80 RH1/A17 (io)

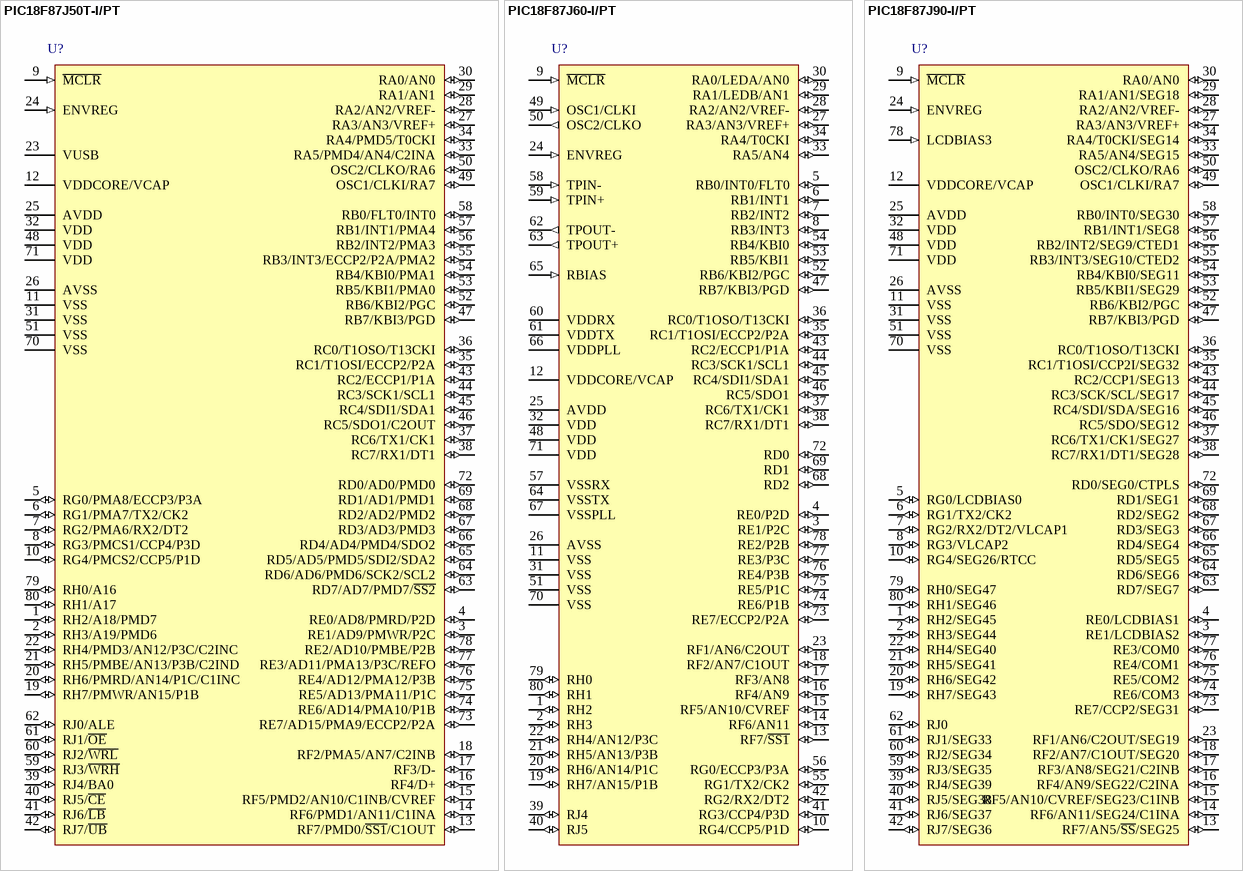
[diagram p40: symbols PIC18F87J50T-I/PT to PIC18F87J90-I/PT]

## PIC18F87J50T-I/PT
designator U?
High Performance, 1-Mbit Flash USB Microcontroller with nanoWatt Technology, 128K Flash, 80-Pin TQFP, Industrial Temperature Range, Tape and Reel; FirstPublished: 29-Jan-2009; LatestRevisionDate: 02-Dec-2009; LatestRevisionNote: Updated to datesheet revision C, Oct-2009; DatasheetVersion: revC, Oct-2009; PackageVersion: revBB, Aug-2009; PackageReference: TQFP-PT80; Publisher: Altium Limited; PackageDescription: 80-Lead Thin Plastic Quad Flat Pack (PT) - 12x12x1mm Body, 2.00mm [TQFP]; Supplier 1: Digi-Key; Supplier Part Number 1: PIC18F87J50T-I/PTTR-ND; Supplier 2: Newark; Supplier Part Number 2: 17M0987; Code_JEDEC: MS-026; ComponentLink1Description: Datasheet; ComponentLink1URL: http://ww1.microchip.com/downloads/en/DeviceDoc/39775c.pdf; ComponentLink2Description: Packaging Specification; ComponentLink2URL: http://www.microchip.com/stellent/groups/techpub_sg/documents/packagingspec/en012702.pdf; ComponentLink3Description: Microchip.com Home; ComponentLink3URL: http://www.microchip.com/
footprint TQFP-PT80_N (Thin QFP, 80-Leads, Body 12x12mm, Pitch 0.5mm, IPC Medium Density)
footprint TQFP-PT80_L (Thin QFP, 80-Leads, Body 12x12mm, Pitch 0.5mm, IPC High Density)
footprint TQFP-PT80_M (Thin QFP, 80-Leads, Body 12x12mm, Pitch 0.5mm, IPC Low Density)
pins: 1 RH2/A18/PMD7 (io), 2 RH3/A19/PMD6 (io), 3 RE1/AD9/PMWR/P2C (io), 4 RE0/AD8/PMRD/P2D (io), 5 RG0/PMA8/ECCP3/P3A (io), 6 RG1/PMA7/TX2/CK2 (io), 7 RG2/PMA6/RX2/DT2 (io), 8 RG3/PMCS1/CCP4/P3D (io), 9 ~{MCLR} (in), 10 RG4/PMCS2/CCP5/P1D (io), 11 VSS (power), 12 VDDCORE/VCAP (power), 13 RF7/PMD0/~{SS1}/C1OUT (io), 14 RF6/PMD1/AN11/C1INA (io), 15 RF5/PMD2/AN10/C1INB/CVREF (io), 16 RF4/D+ (io), 17 RF3/D- (io), 18 RF2/PMA5/AN7/C2INB (io), 19 RH7/PMWR/AN15/P1B (io), 20 RH6/PMRD/AN14/P1C/C1INC (io), 21 RH5/PMBE/AN13/P3B/C2IND (io), 22 RH4/PMD3/AN12/P3C/C2INC (io), 23 VUSB (power), 24 ENVREG (in), 25 AVDD (power), 26 AVSS (power), 27 RA3/AN3/VREF+ (io), 28 RA2/AN2/VREF- (io), 29 RA1/AN1 (io), 30 RA0/AN0 (io), 31 VSS (power), 32 VDD (power), 33 RA5/PMD4/AN4/C2INA (io), 34 RA4/PMD5/T0CKI (io), 35 RC1/T1OSI/ECCP2/P2A (io), 36 RC0/T1OSO/T13CKI (io), 37 RC6/TX1/CK1 (io), 38 RC7/RX1/DT1 (io), 39 RJ4/BA0 (io), 40 RJ5/~{CE} (io), 41 RJ6/~{LB} (io), 42 RJ7/~{UB} (io), 43 RC2/ECCP1/P1A (io), 44 RC3/SCK1/SCL1 (io), 45 RC4/SDI1/SDA1 (io), 46 RC5/SDO1/C2OUT (io), 47 RB7/KBI3/PGD (io), 48 VDD (power), 49 OSC1/CLKI/RA7 (io), 50 OSC2/CLKO/RA6 (io), 51 VSS (power), 52 RB6/KBI2/PGC (io), 53 RB5/KBI1/PMA0 (io), 54 RB4/KBI0/PMA1 (io), 55 RB3/INT3/ECCP2/P2A/PMA2 (io), 56 RB2/INT2/PMA3 (io), 57 RB1/INT1/PMA4 (io), 58 RB0/FLT0/INT0 (io), 59 RJ3/~{WRH} (io), 60 RJ2/~{WRL} (io), 61 RJ1/~{OE} (io), 62 RJ0/ALE (io), 63 RD7/AD7/PMD7/~{SS2} (io), 64 RD6/AD6/PMD6/SCK2/SCL2 (io), 65 RD5/AD5/PMD5/SDI2/SDA2 (io), 66 RD4/AD4/PMD4/SDO2 (io), 67 RD3/AD3/PMD3 (io), 68 RD2/AD2/PMD2 (io), 69 RD1/AD1/PMD1 (io), 70 VSS (power), 71 VDD (power), 72 RD0/AD0/PMD0 (io), 73 RE7/AD15/PMA9/ECCP2/P2A (io), 74 RE6/AD14/PMA10/P1B (io), 75 RE5/AD13/PMA11/P1C (io), 76 RE4/AD12/PMA12/P3B (io), 77 RE3/AD11/PMA13/P3C/REFO (io), 78 RE2/AD10/PMBE/P2B (io), 79 RH0/A16 (io), 80 RH1/A17 (io)

## PIC18F87J60-I/PT
designator U?
High Performance, 1-Mbit Flash Microcontroller with Ethernet, 128K Flash, 80-Pin TQFP, Industrial Temperature Range; FirstPublished: 29-Jan-2009; LatestRevisionDate: 02-Dec-2009; LatestRevisionNote: Updated to datasheet revision E, Oct-2009; DatasheetVersion: revE, Oct-2009; PackageVersion: revBB, Aug-2009; PackageReference: TQFP-PT80; Publisher: Altium Limited; PackageDescription: 80-Lead Thin Plastic Quad Flat Pack (PT) - 12x12x1mm Body, 2.00mm [TQFP]; Supplier 1: Digi-Key; Supplier Part Number 1: PIC18F87J60-I/PT-ND; Supplier 2: Farnell; Supplier Part Number 2: 1332291; Supplier 3: Newark; Supplier Part Number 3: 56K7312; Code_JEDEC: MS-026; ComponentLink1Description: Datasheet; ComponentLink1URL: http://ww1.microchip.com/downloads/en/DeviceDoc/39762e.pdf; ComponentLink2Description: Packaging Specification; ComponentLink2URL: http://www.microchip.com/stellent/groups/techpub_sg/documents/packagingspec/en012702.pdf; ComponentLink3Description: Microchip.com Home; ComponentLink3URL: http://www.microchip.com/
footprint TQFP-PT80_N (Thin QFP, 80-Leads, Body 12x12mm, Pitch 0.5mm, IPC Medium Density)
footprint TQFP-PT80_L (Thin QFP, 80-Leads, Body 12x12mm, Pitch 0.5mm, IPC High Density)
footprint TQFP-PT80_M (Thin QFP, 80-Leads, Body 12x12mm, Pitch 0.5mm, IPC Low Density)
pins: 1 RH2 (io), 2 RH3 (io), 3 RE1/P2C (io), 4 RE0/P2D (io), 5 RB0/INT0/FLT0 (io), 6 RB1/INT1 (io), 7 RB2/INT2 (io), 8 RB3/INT3 (io), 9 ~{MCLR} (in), 10 RG4/CCP5/P1D (io), 11 VSS (power), 12 VDDCORE/VCAP (power), 13 RF7/~{SS1} (io), 14 RF6/AN11 (io), 15 RF5/AN10/CVREF (io), 16 RF4/AN9 (io), 17 RF3/AN8 (io), 18 RF2/AN7/C1OUT (io), 19 RH7/AN15/P1B (io), 20 RH6/AN14/P1C (io), 21 RH5/AN13/P3B (io), 22 RH4/AN12/P3C (io), 23 RF1/AN6/C2OUT (io), 24 ENVREG (in), 25 AVDD (power), 26 AVSS (power), 27 RA3/AN3/VREF+ (io), 28 RA2/AN2/VREF- (io), 29 RA1/LEDB/AN1 (io), 30 RA0/LEDA/AN0 (io), 31 VSS (power), 32 VDD (power), 33 RA5/AN4 (io), 34 RA4/T0CKI (io), 35 RC1/T1OSI/ECCP2/P2A (io), 36 RC0/T1OSO/T13CKI (io), 37 RC6/TX1/CK1 (io), 38 RC7/RX1/DT1 (io), 39 RJ4 (io), 40 RJ5 (io), 41 RG3/CCP4/P3D (io), 42 RG2/RX2/DT2 (io), 43 RC2/ECCP1/P1A (io), 44 RC3/SCK1/SCL1 (io), 45 RC4/SDI1/SDA1 (io), 46 RC5/SDO1 (io), 47 RB7/KBI3/PGD (io), 48 VDD (power), 49 OSC1/CLKI (in), 50 OSC2/CLKO (out), 51 VSS (power), 52 RB6/KBI2/PGC (io), 53 RB5/KBI1 (io), 54 RB4/KBI0 (io), 55 RG1/TX2/CK2 (io), 56 RG0/ECCP3/P3A (io), 57 VSSRX (power), 58 TPIN- (in), 59 TPIN+ (in), 60 VDDRX (power), 61 VDDTX (power), 62 TPOUT- (out), 63 TPOUT+ (out), 64 VSSTX (power), 65 RBIAS (in), 66 VDDPLL (power), 67 VSSPLL (power), 68 RD2 (io), 69 RD1 (io), 70 VSS (power), 71 VDD (power), 72 RD0 (io), 73 RE7/ECCP2/P2A (io), 74 RE6/P1B (io), 75 RE5/P1C (io), 76 RE4/P3B (io), 77 RE3/P3C (io), 78 RE2/P2B (io), 79 RH0 (io), 80 RH1 (io)

## PIC18F87J90-I/PT
designator U?
High Performance Microcontroller with LCD Driver and nanoWatt Technology, 80-pin TQFP, Industrial Temperature; FirstPublished: 2-Dec-2009; DatasheetVersion: revC, Feb-2009; PackageVersion: revBB, Aug-2009; PackageReference: TQFP-PT80; Publisher: Altium Limited; PackageDescription: 80-Lead Thin Plastic Quad Flat Pack (PT) - 12x12x1mm Body, 2.00mm [TQFP]; Supplier 1: Digi-Key; Supplier Part Number 1: PIC18F87J90-I/PT-ND; Supplier 2: Farnell; Supplier Part Number 2: 1698216; Supplier 3: Newark; Supplier Part Number 3: 07P9687; Code_JEDEC: MS-026; ComponentLink1Description: Datasheet; ComponentLink1URL: http://ww1.microchip.com/downloads/en/DeviceDoc/39933C.pdf; ComponentLink2Description: Packaging Specification; ComponentLink2URL: http://www.microchip.com/stellent/groups/techpub_sg/documents/packagingspec/en012702.pdf; ComponentLink3Description: Microchip.com Home; ComponentLink3URL: http://www.microchip.com/
footprint TQFP-PT80_N (Thin QFP, 80-Leads, Body 12x12mm, Pitch 0.5mm, IPC Medium Density)
footprint TQFP-PT80_L (Thin QFP, 80-Leads, Body 12x12mm, Pitch 0.5mm, IPC High Density)
footprint TQFP-PT80_M (Thin QFP, 80-Leads, Body 12x12mm, Pitch 0.5mm, IPC Low Density)
pins: 1 RH2/SEG45 (io), 2 RH3/SEG44 (io), 3 RE1/LCDBIAS2 (io), 4 RE0/LCDBIAS1 (io), 5 RG0/LCDBIAS0 (io), 6 RG1/TX2/CK2 (io), 7 RG2/RX2/DT2/VLCAP1 (io), 8 RG3/VLCAP2 (io), 9 ~{MCLR} (in), 10 RG4/SEG26/RTCC (io), 11 VSS (power), 12 VDDCORE/VCAP (power), 13 RF7/AN5/~{SS}/SEG25 (io), 14 RF6/AN11/SEG24/C1INA (io), 15 RF5/AN10/CVREF/SEG23/C1INB (io), 16 RF4/AN9/SEG22/C2INA (io), 17 RF3/AN8/SEG21/C2INB (io), 18 RF2/AN7/C1OUT/SEG20 (io), 19 RH7/SEG43 (io), 20 RH6/SEG42 (io), 21 RH5/SEG41 (io), 22 RH4/SEG40 (io), 23 RF1/AN6/C2OUT/SEG19 (io), 24 ENVREG (in), 25 AVDD (power), 26 AVSS (power), 27 RA3/AN3/VREF+ (io), 28 RA2/AN2/VREF- (io), 29 RA1/AN1/SEG18 (io), 30 RA0/AN0 (io), 31 VSS (power), 32 VDD (power), 33 RA5/AN4/SEG15 (io), 34 RA4/T0CKI/SEG14 (io), 35 RC1/T1OSI/CCP2I/SEG32 (io), 36 RC0/T1OSO/T13CKI (io), 37 RC6/TX1/CK1/SEG27 (io), 38 RC7/RX1/DT1/SEG28 (io), 39 RJ4/SEG39 (io), 40 RJ5/SEG38 (io), 41 RJ6/SEG37 (io), 42 RJ7/SEG36 (io), 43 RC2/CCP1/SEG13 (io), 44 RC3/SCK/SCL/SEG17 (io), 45 RC4/SDI/SDA/SEG16 (io), 46 RC5/SDO/SEG12 (io), 47 RB7/KBI3/PGD (io), 48 VDD (power), 49 OSC1/CLKI/RA7 (io), 50 OSC2/CLKO/RA6 (io), 51 VSS (power), 52 RB6/KBI2/PGC (io), 53 RB5/KBI1/SEG29 (io), 54 RB4/KBI0/SEG11 (io), 55 RB3/INT3/SEG10/CTED2 (io), 56 RB2/INT2/SEG9/CTED1 (io), 57 RB1/INT1/SEG8 (io), 58 RB0/INT0/SEG30 (io), 59 RJ3/SEG35 (io), 60 RJ2/SEG34 (io), 61 RJ1/SEG33 (io), 62 RJ0 (io), 63 RD7/SEG7 (io), 64 RD6/SEG6 (io), 65 RD5/SEG5 (io), 66 RD4/SEG4 (io), 67 RD3/SEG3 (io), 68 RD2/SEG2 (io), 69 RD1/SEG1 (io), 70 VSS (power), 71 VDD (power), 72 RD0/SEG0/CTPLS (io), 73 RE7/CCP2/SEG31 (io), 74 RE6/COM3 (io), 75 RE5/COM2 (io), 76 RE4/COM1 (io), 77 RE3/COM0 (io), 78 LCDBIAS3 (in), 79 RH0/SEG47 (io), 80 RH1/SEG46 (io)

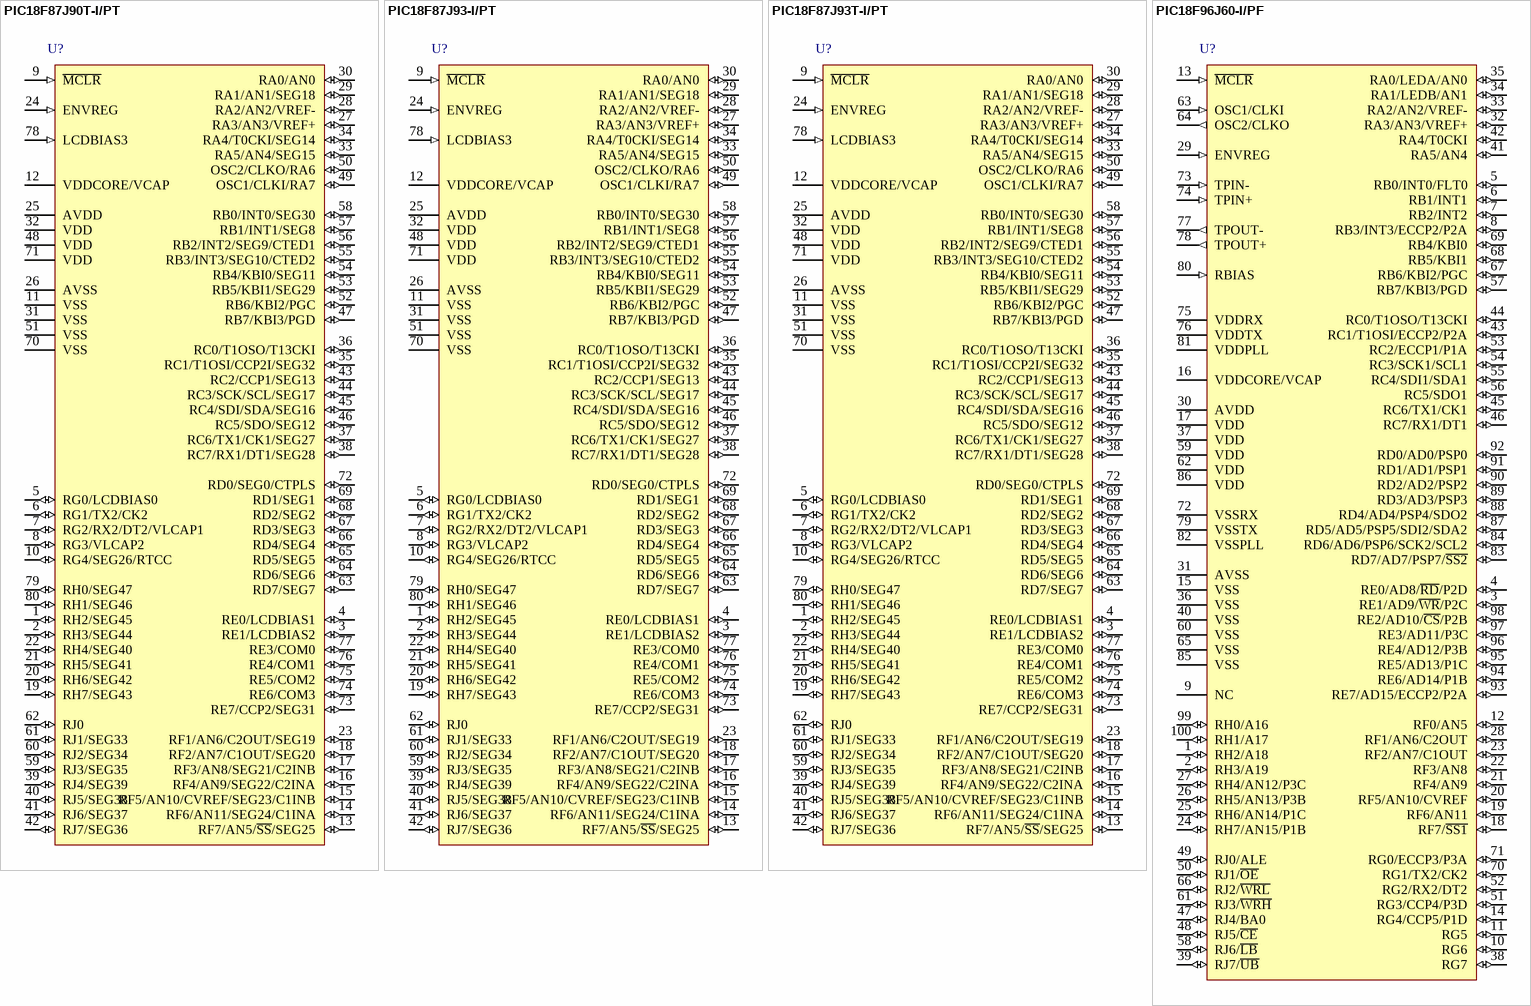
[diagram p41: symbols PIC18F87J90T-I/PT to PIC18F96J60-I/PF]

## PIC18F87J90T-I/PT
designator U?
High Performance Microcontroller with LCD Driver and nanoWatt Technology, 80-pin TQFP, Industrial Temperature, Tape and Reel; FirstPublished: 2-Dec-2009; DatasheetVersion: revC, Feb-2009; PackageVersion: revBB, Aug-2009; PackageReference: TQFP-PT80; Publisher: Altium Limited; PackageDescription: 80-Lead Thin Plastic Quad Flat Pack (PT) - 12x12x1mm Body, 2.00mm [TQFP]; Supplier 1: Digi-Key; Supplier Part Number 1: PIC18F87J90T-I/PT-ND; Supplier 2: Newark; Supplier Part Number 2: 07P9688; Code_JEDEC: MS-026; ComponentLink1Description: Datasheet; ComponentLink1URL: http://ww1.microchip.com/downloads/en/DeviceDoc/39933C.pdf; ComponentLink2Description: Packaging Specification; ComponentLink2URL: http://www.microchip.com/stellent/groups/techpub_sg/documents/packagingspec/en012702.pdf; ComponentLink3Description: Microchip.com Home; ComponentLink3URL: http://www.microchip.com/
footprint TQFP-PT80_N (Thin QFP, 80-Leads, Body 12x12mm, Pitch 0.5mm, IPC Medium Density)
footprint TQFP-PT80_L (Thin QFP, 80-Leads, Body 12x12mm, Pitch 0.5mm, IPC High Density)
footprint TQFP-PT80_M (Thin QFP, 80-Leads, Body 12x12mm, Pitch 0.5mm, IPC Low Density)
pins: 1 RH2/SEG45 (io), 2 RH3/SEG44 (io), 3 RE1/LCDBIAS2 (io), 4 RE0/LCDBIAS1 (io), 5 RG0/LCDBIAS0 (io), 6 RG1/TX2/CK2 (io), 7 RG2/RX2/DT2/VLCAP1 (io), 8 RG3/VLCAP2 (io), 9 ~{MCLR} (in), 10 RG4/SEG26/RTCC (io), 11 VSS (power), 12 VDDCORE/VCAP (power), 13 RF7/AN5/~{SS}/SEG25 (io), 14 RF6/AN11/SEG24/C1INA (io), 15 RF5/AN10/CVREF/SEG23/C1INB (io), 16 RF4/AN9/SEG22/C2INA (io), 17 RF3/AN8/SEG21/C2INB (io), 18 RF2/AN7/C1OUT/SEG20 (io), 19 RH7/SEG43 (io), 20 RH6/SEG42 (io), 21 RH5/SEG41 (io), 22 RH4/SEG40 (io), 23 RF1/AN6/C2OUT/SEG19 (io), 24 ENVREG (in), 25 AVDD (power), 26 AVSS (power), 27 RA3/AN3/VREF+ (io), 28 RA2/AN2/VREF- (io), 29 RA1/AN1/SEG18 (io), 30 RA0/AN0 (io), 31 VSS (power), 32 VDD (power), 33 RA5/AN4/SEG15 (io), 34 RA4/T0CKI/SEG14 (io), 35 RC1/T1OSI/CCP2I/SEG32 (io), 36 RC0/T1OSO/T13CKI (io), 37 RC6/TX1/CK1/SEG27 (io), 38 RC7/RX1/DT1/SEG28 (io), 39 RJ4/SEG39 (io), 40 RJ5/SEG38 (io), 41 RJ6/SEG37 (io), 42 RJ7/SEG36 (io), 43 RC2/CCP1/SEG13 (io), 44 RC3/SCK/SCL/SEG17 (io), 45 RC4/SDI/SDA/SEG16 (io), 46 RC5/SDO/SEG12 (io), 47 RB7/KBI3/PGD (io), 48 VDD (power), 49 OSC1/CLKI/RA7 (io), 50 OSC2/CLKO/RA6 (io), 51 VSS (power), 52 RB6/KBI2/PGC (io), 53 RB5/KBI1/SEG29 (io), 54 RB4/KBI0/SEG11 (io), 55 RB3/INT3/SEG10/CTED2 (io), 56 RB2/INT2/SEG9/CTED1 (io), 57 RB1/INT1/SEG8 (io), 58 RB0/INT0/SEG30 (io), 59 RJ3/SEG35 (io), 60 RJ2/SEG34 (io), 61 RJ1/SEG33 (io), 62 RJ0 (io), 63 RD7/SEG7 (io), 64 RD6/SEG6 (io), 65 RD5/SEG5 (io), 66 RD4/SEG4 (io), 67 RD3/SEG3 (io), 68 RD2/SEG2 (io), 69 RD1/SEG1 (io), 70 VSS (power), 71 VDD (power), 72 RD0/SEG0/CTPLS (io), 73 RE7/CCP2/SEG31 (io), 74 RE6/COM3 (io), 75 RE5/COM2 (io), 76 RE4/COM1 (io), 77 RE3/COM0 (io), 78 LCDBIAS3 (in), 79 RH0/SEG47 (io), 80 RH1/SEG46 (io)

## PIC18F87J93-I/PT
designator U?
High Performance Microcontroller with LCD Driver, 12-Bit A/D and nanoWatt Technology, 80-pin TQFP, Industrial Temperature; FirstPublished: 2-Dec-2009; DatasheetVersion: revA, Jun-2009; PackageVersion: revBB, Aug-2009; PackageReference: TQFP-PT80; Publisher: Altium Limited; PackageDescription: 80-Lead Thin Plastic Quad Flat Pack (PT) - 12x12x1mm Body, 2.00mm [TQFP]; Supplier 1: Digi-Key; Supplier Part Number 1: PIC18F87J93-I/PT-ND; Supplier 2: Farnell; Supplier Part Number 2: 1740240; Supplier 3: Newark; Supplier Part Number 3: 14R8992; Code_JEDEC: MS-026; ComponentLink1Description: Datasheet; ComponentLink1URL: http://ww1.microchip.com/downloads/en/DeviceDoc/39948a.pdf; ComponentLink2Description: Packaging Specification; ComponentLink2URL: http://www.microchip.com/stellent/groups/techpub_sg/documents/packagingspec/en012702.pdf; ComponentLink3Description: Microchip.com Home; ComponentLink3URL: http://www.microchip.com/
footprint TQFP-PT80_N (Thin QFP, 80-Leads, Body 12x12mm, Pitch 0.5mm, IPC Medium Density)
footprint TQFP-PT80_L (Thin QFP, 80-Leads, Body 12x12mm, Pitch 0.5mm, IPC High Density)
footprint TQFP-PT80_M (Thin QFP, 80-Leads, Body 12x12mm, Pitch 0.5mm, IPC Low Density)
pins: 1 RH2/SEG45 (io), 2 RH3/SEG44 (io), 3 RE1/LCDBIAS2 (io), 4 RE0/LCDBIAS1 (io), 5 RG0/LCDBIAS0 (io), 6 RG1/TX2/CK2 (io), 7 RG2/RX2/DT2/VLCAP1 (io), 8 RG3/VLCAP2 (io), 9 ~{MCLR} (in), 10 RG4/SEG26/RTCC (io), 11 VSS (power), 12 VDDCORE/VCAP (power), 13 RF7/AN5/~{SS}/SEG25 (io), 14 RF6/AN11/SEG24/C1INA (io), 15 RF5/AN10/CVREF/SEG23/C1INB (io), 16 RF4/AN9/SEG22/C2INA (io), 17 RF3/AN8/SEG21/C2INB (io), 18 RF2/AN7/C1OUT/SEG20 (io), 19 RH7/SEG43 (io), 20 RH6/SEG42 (io), 21 RH5/SEG41 (io), 22 RH4/SEG40 (io), 23 RF1/AN6/C2OUT/SEG19 (io), 24 ENVREG (in), 25 AVDD (power), 26 AVSS (power), 27 RA3/AN3/VREF+ (io), 28 RA2/AN2/VREF- (io), 29 RA1/AN1/SEG18 (io), 30 RA0/AN0 (io), 31 VSS (power), 32 VDD (power), 33 RA5/AN4/SEG15 (io), 34 RA4/T0CKI/SEG14 (io), 35 RC1/T1OSI/CCP2I/SEG32 (io), 36 RC0/T1OSO/T13CKI (io), 37 RC6/TX1/CK1/SEG27 (io), 38 RC7/RX1/DT1/SEG28 (io), 39 RJ4/SEG39 (io), 40 RJ5/SEG38 (io), 41 RJ6/SEG37 (io), 42 RJ7/SEG36 (io), 43 RC2/CCP1/SEG13 (io), 44 RC3/SCK/SCL/SEG17 (io), 45 RC4/SDI/SDA/SEG16 (io), 46 RC5/SDO/SEG12 (io), 47 RB7/KBI3/PGD (io), 48 VDD (power), 49 OSC1/CLKI/RA7 (io), 50 OSC2/CLKO/RA6 (io), 51 VSS (power), 52 RB6/KBI2/PGC (io), 53 RB5/KBI1/SEG29 (io), 54 RB4/KBI0/SEG11 (io), 55 RB3/INT3/SEG10/CTED2 (io), 56 RB2/INT2/SEG9/CTED1 (io), 57 RB1/INT1/SEG8 (io), 58 RB0/INT0/SEG30 (io), 59 RJ3/SEG35 (io), 60 RJ2/SEG34 (io), 61 RJ1/SEG33 (io), 62 RJ0 (io), 63 RD7/SEG7 (io), 64 RD6/SEG6 (io), 65 RD5/SEG5 (io), 66 RD4/SEG4 (io), 67 RD3/SEG3 (io), 68 RD2/SEG2 (io), 69 RD1/SEG1 (io), 70 VSS (power), 71 VDD (power), 72 RD0/SEG0/CTPLS (io), 73 RE7/CCP2/SEG31 (io), 74 RE6/COM3 (io), 75 RE5/COM2 (io), 76 RE4/COM1 (io), 77 RE3/COM0 (io), 78 LCDBIAS3 (in), 79 RH0/SEG47 (io), 80 RH1/SEG46 (io)

## PIC18F87J93T-I/PT
designator U?
High Performance Microcontroller with LCD Driver, 12-Bit A/D and nanoWatt Technology, 80-pin TQFP, Industrial Temperature, Tape and Reel; FirstPublished: 2-Dec-2009; DatasheetVersion: revA, Jun-2009; PackageVersion: revBB, Aug-2009; PackageReference: TQFP-PT80; Publisher: Altium Limited; PackageDescription: 80-Lead Thin Plastic Quad Flat Pack (PT) - 12x12x1mm Body, 2.00mm [TQFP]; Supplier 1: Digi-Key; Supplier Part Number 1: PIC18F87J93T-I/PT-ND; Supplier 2: Newark; Supplier Part Number 2: 14R8993; Code_JEDEC: MS-026; ComponentLink1Description: Datasheet; ComponentLink1URL: http://ww1.microchip.com/downloads/en/DeviceDoc/39948a.pdf; ComponentLink2Description: Packaging Specification; ComponentLink2URL: http://www.microchip.com/stellent/groups/techpub_sg/documents/packagingspec/en012702.pdf; ComponentLink3Description: Microchip.com Home; ComponentLink3URL: http://www.microchip.com/
footprint TQFP-PT80_N (Thin QFP, 80-Leads, Body 12x12mm, Pitch 0.5mm, IPC Medium Density)
footprint TQFP-PT80_L (Thin QFP, 80-Leads, Body 12x12mm, Pitch 0.5mm, IPC High Density)
footprint TQFP-PT80_M (Thin QFP, 80-Leads, Body 12x12mm, Pitch 0.5mm, IPC Low Density)
pins: 1 RH2/SEG45 (io), 2 RH3/SEG44 (io), 3 RE1/LCDBIAS2 (io), 4 RE0/LCDBIAS1 (io), 5 RG0/LCDBIAS0 (io), 6 RG1/TX2/CK2 (io), 7 RG2/RX2/DT2/VLCAP1 (io), 8 RG3/VLCAP2 (io), 9 ~{MCLR} (in), 10 RG4/SEG26/RTCC (io), 11 VSS (power), 12 VDDCORE/VCAP (power), 13 RF7/AN5/~{SS}/SEG25 (io), 14 RF6/AN11/SEG24/C1INA (io), 15 RF5/AN10/CVREF/SEG23/C1INB (io), 16 RF4/AN9/SEG22/C2INA (io), 17 RF3/AN8/SEG21/C2INB (io), 18 RF2/AN7/C1OUT/SEG20 (io), 19 RH7/SEG43 (io), 20 RH6/SEG42 (io), 21 RH5/SEG41 (io), 22 RH4/SEG40 (io), 23 RF1/AN6/C2OUT/SEG19 (io), 24 ENVREG (in), 25 AVDD (power), 26 AVSS (power), 27 RA3/AN3/VREF+ (io), 28 RA2/AN2/VREF- (io), 29 RA1/AN1/SEG18 (io), 30 RA0/AN0 (io), 31 VSS (power), 32 VDD (power), 33 RA5/AN4/SEG15 (io), 34 RA4/T0CKI/SEG14 (io), 35 RC1/T1OSI/CCP2I/SEG32 (io), 36 RC0/T1OSO/T13CKI (io), 37 RC6/TX1/CK1/SEG27 (io), 38 RC7/RX1/DT1/SEG28 (io), 39 RJ4/SEG39 (io), 40 RJ5/SEG38 (io), 41 RJ6/SEG37 (io), 42 RJ7/SEG36 (io), 43 RC2/CCP1/SEG13 (io), 44 RC3/SCK/SCL/SEG17 (io), 45 RC4/SDI/SDA/SEG16 (io), 46 RC5/SDO/SEG12 (io), 47 RB7/KBI3/PGD (io), 48 VDD (power), 49 OSC1/CLKI/RA7 (io), 50 OSC2/CLKO/RA6 (io), 51 VSS (power), 52 RB6/KBI2/PGC (io), 53 RB5/KBI1/SEG29 (io), 54 RB4/KBI0/SEG11 (io), 55 RB3/INT3/SEG10/CTED2 (io), 56 RB2/INT2/SEG9/CTED1 (io), 57 RB1/INT1/SEG8 (io), 58 RB0/INT0/SEG30 (io), 59 RJ3/SEG35 (io), 60 RJ2/SEG34 (io), 61 RJ1/SEG33 (io), 62 RJ0 (io), 63 RD7/SEG7 (io), 64 RD6/SEG6 (io), 65 RD5/SEG5 (io), 66 RD4/SEG4 (io), 67 RD3/SEG3 (io), 68 RD2/SEG2 (io), 69 RD1/SEG1 (io), 70 VSS (power), 71 VDD (power), 72 RD0/SEG0/CTPLS (io), 73 RE7/CCP2/SEG31 (io), 74 RE6/COM3 (io), 75 RE5/COM2 (io), 76 RE4/COM1 (io), 77 RE3/COM0 (io), 78 LCDBIAS3 (in), 79 RH0/SEG47 (io), 80 RH1/SEG46 (io)

## PIC18F96J60-I/PF
designator U?
High Performance, 1-Mbit Flash Microcontroller with Ethernet, 64K Flash, 100-Pin TQFP, Industrial Temperature Range; FirstPublished: 29-Jan-2009; LatestRevisionDate: 02-Dec-2009; LatestRevisionNote: Updated to datasheet revision E, Oct-2009; DatasheetVersion: revE, Oct-2009; PackageVersion: revBB, Aug-2009; PackageReference: TQFP-PF100; Publisher: Altium Limited; PackageDescription: 100-Lead Thin Plastic Quad Flat Pack (PF) - 14x14x1mm Body, 2.00mm [TQFP]; Supplier 1: Digi-Key; Supplier Part Number 1: PIC18F96J60-I/PF-ND; Supplier 2: Newark; Supplier Part Number 2: 54M5049; ComponentLink1Description: Datasheet; ComponentLink1URL: http://ww1.microchip.com/downloads/en/DeviceDoc/39762e.pdf; ComponentLink2Description: Packaging Specification; ComponentLink2URL: http://www.microchip.com/stellent/groups/techpub_sg/documents/packagingspec/en012702.pdf; ComponentLink3Description: Microchip.com Home; ComponentLink3URL: http://www.microchip.com/
footprint TQFP-PF100_N (Thin QFP, 100-Leads, Body 14x14mm, Pitch 0.5mm, IPC Medium Density)
footprint TQFP-PF100_L (Thin QFP, 100-Leads, Body 14x14mm, Pitch 0.5mm, IPC High Density)
footprint TQFP-PF100_M (Thin QFP, 100-Leads, Body 14x14mm, Pitch 0.5mm, IPC Low Density)
pins: 1 RH2/A18 (io), 2 RH3/A19 (io), 3 RE1/AD9/~{WR}/P2C (io), 4 RE0/AD8/~{RD}/P2D (io), 5 RB0/INT0/FLT0 (io), 6 RB1/INT1 (io), 7 RB2/INT2 (io), 8 RB3/INT3/ECCP2/P2A (io), 9 NC, 10 RG6 (io), 11 RG5 (io), 12 RF0/AN5 (io), 13 ~{MCLR} (in), 14 RG4/CCP5/P1D (io), 15 VSS (power), 16 VDDCORE/VCAP (power), 17 VDD (power), 18 RF7/~{SS1} (io), 19 RF6/AN11 (io), 20 RF5/AN10/CVREF (io), 21 RF4/AN9 (io), 22 RF3/AN8 (io), 23 RF2/AN7/C1OUT (io), 24 RH7/AN15/P1B (io), 25 RH6/AN14/P1C (io), 26 RH5/AN13/P3B (io), 27 RH4/AN12/P3C (io), 28 RF1/AN6/C2OUT (io), 29 ENVREG (in), 30 AVDD (power), 31 AVSS (power), 32 RA3/AN3/VREF+ (io), 33 RA2/AN2/VREF- (io), 34 RA1/LEDB/AN1 (io), 35 RA0/LEDA/AN0 (io), 36 VSS (power), 37 VDD (power), 38 RG7 (io), 39 RJ7/~{UB} (io), 40 VSS (power), 41 RA5/AN4 (io), 42 RA4/T0CKI (io), 43 RC1/T1OSI/ECCP2/P2A (io), 44 RC0/T1OSO/T13CKI (io), 45 RC6/TX1/CK1 (io), 46 RC7/RX1/DT1 (io), 47 RJ4/BA0 (io), 48 RJ5/~{CE} (io), 49 RJ0/ALE (io), 50 RJ1/~{OE} (io), 51 RG3/CCP4/P3D (io), 52 RG2/RX2/DT2 (io), 53 RC2/ECCP1/P1A (io), 54 RC3/SCK1/SCL1 (io), 55 RC4/SDI1/SDA1 (io), 56 RC5/SDO1 (io), 57 RB7/KBI3/PGD (io), 58 RJ6/~{LB} (io), 59 VDD (power), 60 VSS (power), 61 RJ3/~{WRH} (io), 62 VDD (power), 63 OSC1/CLKI (in), 64 OSC2/CLKO (out), 65 VSS (power), 66 RJ2/~{WRL} (io), 67 RB6/KBI2/PGC (io), 68 RB5/KBI1 (io), 69 RB4/KBI0 (io), 70 RG1/TX2/CK2 (io), 71 RG0/ECCP3/P3A (io), 72 VSSRX (power), 73 TPIN- (in), 74 TPIN+ (in), 75 VDDRX (power), 76 VDDTX (power), 77 TPOUT- (out), 78 TPOUT+ (out), 79 VSSTX (power), 80 RBIAS (in), 81 VDDPLL (power), 82 VSSPLL (power), 83 RD7/AD7/PSP7/~{SS2} (io), 84 RD6/AD6/PSP6/SCK2/SCL2 (io), 85 VSS (power), 86 VDD (power), 87 RD5/AD5/PSP5/SDI2/SDA2 (io), 88 RD4/AD4/PSP4/SDO2 (io), 89 RD3/AD3/PSP3 (io), 90 RD2/AD2/PSP2 (io), 91 RD1/AD1/PSP1 (io), 92 RD0/AD0/PSP0 (io), 93 RE7/AD15/ECCP2/P2A (io), 94 RE6/AD14/P1B (io), 95 RE5/AD13/P1C (io), 96 RE4/AD12/P3B (io), 97 RE3/AD11/P3C (io), 98 RE2/AD10/~{CS}/P2B (io), 99 RH0/A16 (io), 100 RH1/A17 (io)

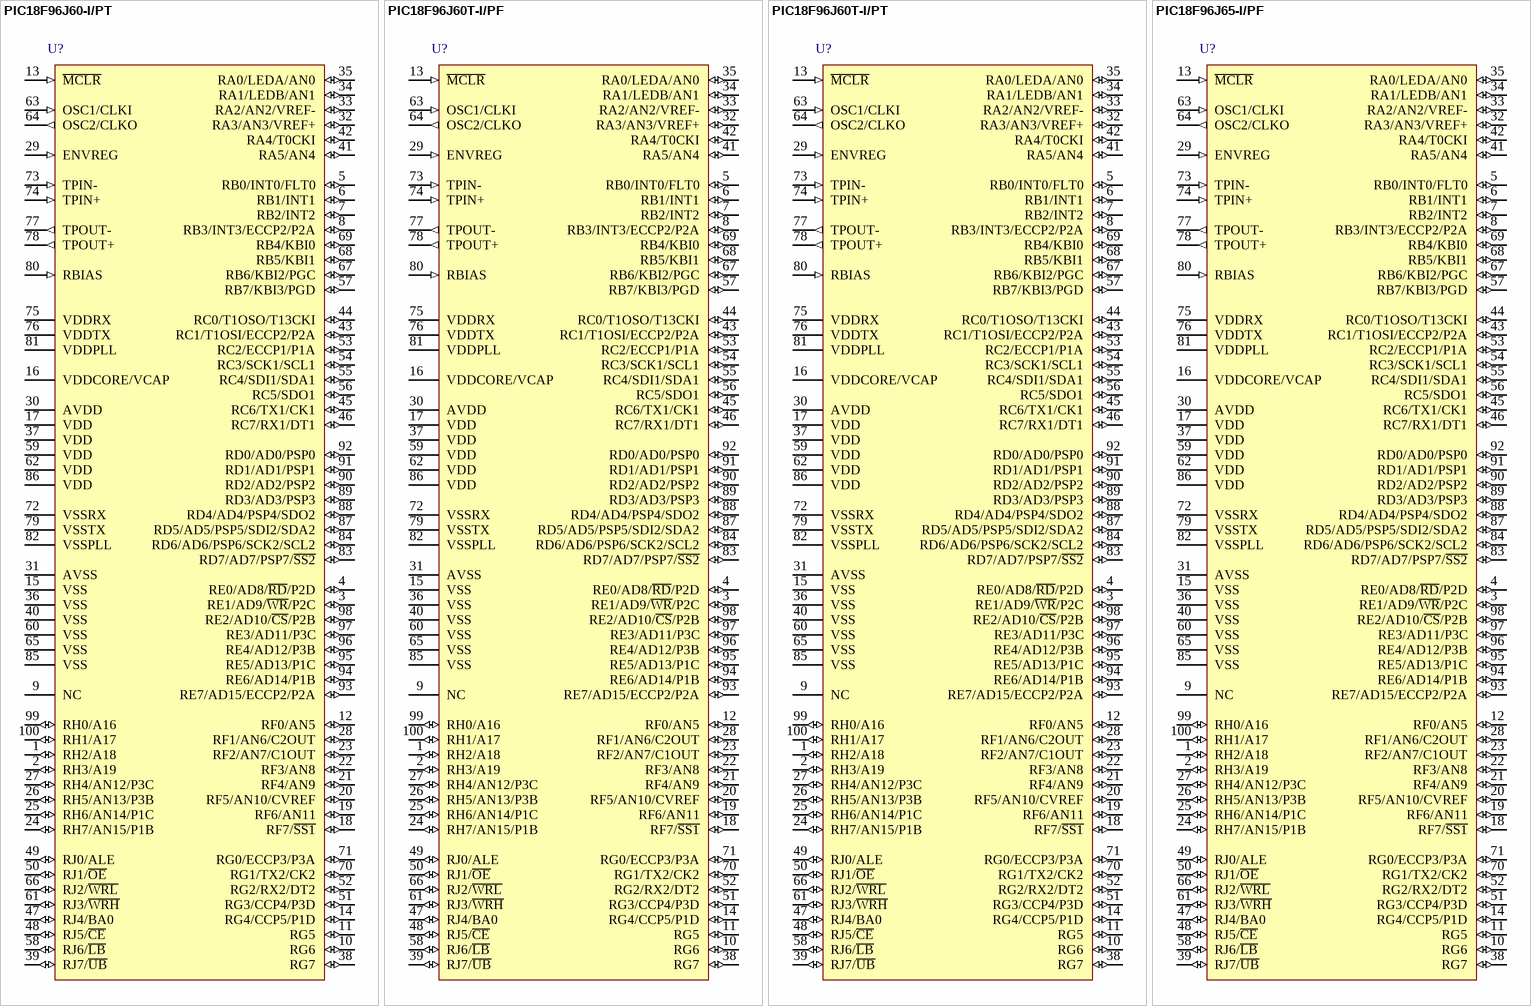
[diagram p42: symbols PIC18F96J60-I/PT to PIC18F96J65-I/PF]